# Altium integrated library Altera APEX 20KC.IntLib: 42 symbols (part 3 of 13)
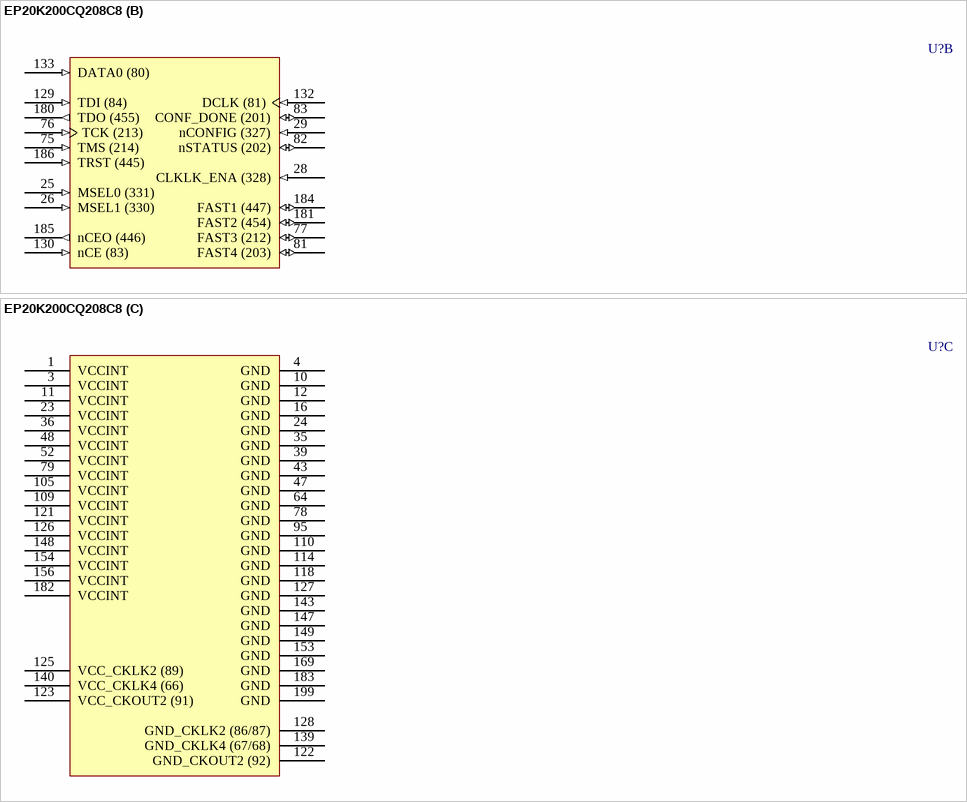
[diagram p93: symbol EP20K200CQ208C8]

## EP20K200CQ208C8
designator U?
APEX 20KC Family, 1.8V FPGA, 136 I/O Pins, 2 x PLLs, Commercial Grade, Speed Grade 8; Note: Pin compatible with Apex 20KE equivalent; Published: 23-Sep-2002; LatestRevisionDate: 13-Apr-2006; LatestRevisionNote: IPC-7351 Footprint Added.; DatasheetVersion: ver2.2, Feb-2004; PackageVersion: ver15.4, Dec-2008; PackageReference: PQFP208; Publisher: Altium Limited; PackageDescription: 208-Pin Plastic Quad Flat Pack (PQFP208) - Wire Bond; Code_JEDEC: MS-029-FA-1; ComponentLink1Description: Manufacturer Link; ComponentLink1URL: http://www.altera.com/products/devices/apex/apx-index.html; ComponentLink2Description: Datasheet; ComponentLink2URL: http://www.altera.com/literature/ds/ds_apex20kc.pdf
footprint PQFP208_N (Shrink QFP, 208-Leads, Body 28x28mm, Pitch 0.5mm, IPC Medium Density)
footprint PQFP208_L (Shrink QFP, 208-Leads, Body 28x28mm, Pitch 0.5mm, IPC High Density)
footprint PQFP208_M (Shrink QFP, 208-Leads, Body 28x28mm, Pitch 0.5mm, IPC Low Density)
3D model EP20K200C-PQFP208 (208-Pin Plastic Quad Flat Pack (PQFP208) - Wire Bond)
part A pins: 2 IO (407) (io), 5 IO (401) (io), 6 IO (395) (io), 7 IO (377) (io), 8 VCCIO3 (power), 9 IO (371) (io), 13 IO (365) (io), 14 IO (359) (io), 15 IO (357) (io), 17 IO (353) (io), 18 IO (351) (io), 19 IO (347) (io), 20 IO (345) (io), 21 IO (341) (io), 22 IO (333) (io), 27 CLK1p (329) (in), 30 IO/CLK1n (325) (io), 31 CLK3p (324) (in), 32 IO (322) (io), 33 IO (319) (io), 34 IO (318) (io), 37 IO (311) (io), 38 IO (305) (io), 40 IO (301) (io), 41 IO (299) (io), 42 VCCIO4 (power), 44 IO (281) (io), 45 IO (275) (io), 46 IO (269) (io), 49 IO (263) (io), 50 IO (257) (io), 51 IO (251) (io), 53 VCCIO5 (power), 54 IO (247) (io), 55 IO (245) (io), 56 IO (244) (io), 57 IO (242) (io), 58 IO (240) (io), 59 IO (238) (io), 60 IO (235) (io), 61 IO (234) (io), 62 IO (232) (io), 63 IO (231) (io), 65 IO (229) (io), 66 IO (227) (io), 67 IO (226) (io), 68 IO (224) (io), 69 IO (223) (io), 70 IO (222) (io), 71 IO (220) (io), 72 IO (218) (io), 73 IO (216) (io), 74 IO (215) (io), 80 VCCIO5 (power), 84 IO (198) (io), 85 IO (197) (io), 86 VCCIO6 (power), 87 IO (195) (io), 88 IO (194) (io), 89 IO (193) (io), 90 IO (191) (io), 91 IO (190) (io), 92 IO (187) (io), 93 IO (185) (io), 94 IO (183) (io), 96 IO (181) (io), 97 IO (180) (io), 98 IO (179) (io), 99 IO (176) (io), 100 IO (175) (io), 101 IO (173) (io), 102 IO (171) (io), 103 IO (170) (io), 104 IO (168) (io), 106 IO (164) (io), 107 IO (158) (io), 108 IO (152) (io), 111 IO (146) (io), 112 IO (140) (io), 113 IO (134) (io), 115 VCCIO7 (power), 116 IO/LOCK4 (110) (io), 117 IO (108) (io), 119 IO/LOCK2 (98) (io), 120 CLKLK_OUT2p (93) (out), 124 IO/DEV_OE (90) (io), 131 CLK2p (82) (in), 134 CLK4p (77) (in), 135 CLKLK_FB2p (75) (in), 136 VCCIO8 (power), 137 IO/DEV_CLRn (71) (io), 138 IO/CS (69) (io), 141 IO/nCS (56) (io), 142 IO/nRS (50) (io), 144 IO (44) (io), 145 IO/nWS (38) (io), 146 IO/DATA7 (32) (io), 150 IO/DATA6 (26) (io), 151 IO (14) (io), 152 IO (8) (io), 155 IO (2) (io), 157 IO/DATA5 (489) (io), 158 IO (487) (io), 159 IO (486) (io), 160 IO/DATA4 (485) (io), 161 IO (483) (io), 162 IO (482) (io), 163 IO/DATA3 (481) (io), 164 IO (476) (io), 165 IO (475) (io), 166 IO (474) (io), 167 IO (473) (io), 168 IO/DATA2 (472) (io), 170 IO (471) (io), 171 IO (469) (io), 172 VCCIO1 (power), 173 IO/DATA1 (465) (io), 174 IO (464) (io), 175 IO (463) (io), 176 IO/CLKUSR (461) (io), 177 IO/RDYnBSY (459) (io), 178 IO/INIT_DONE (458) (io), 179 IO (457) (io), 187 IO (444) (io), 188 IO (442) (io), 189 VCCIO2 (power), 190 IO (439) (io), 191 IO (437) (io), 192 IO (435) (io), 193 IO (434) (io), 194 IO (432) (io), 195 IO (430) (io), 196 IO (429) (io), 197 IO (427) (io), 198 IO (424) (io), 200 IO (423) (io), 201 IO (422) (io), 202 IO (420) (io), 203 IO (419) (io), 204 IO (417) (io), 205 IO (415) (io), 206 IO (413) (io), 207 IO (411) (io), 208 VCCIO2 (power)
part B pins: 25 MSEL0 (331) (in), 26 MSEL1 (330) (in), 28 CLKLK_ENA (328) (in), 29 nCONFIG (327) (in), 75 TMS (214) (in), 76 TCK (213) (in), 77 FAST3 (212) (io), 81 FAST4 (203) (io), 82 nSTATUS (202) (io), 83 CONF_DONE (201) (io), 129 TDI (84) (in), 130 nCE (83) (in), 132 DCLK (81) (in), 133 DATA0 (80) (in), 180 TDO (455) (out), 181 FAST2 (454) (io), 184 FAST1 (447) (io), 185 nCEO (446) (out), 186 TRST (445) (in)
part C pins: 1 VCCINT (power), 3 VCCINT (power), 4 GND (power), 10 GND (power), 11 VCCINT (power), 12 GND (power), 16 GND (power), 23 VCCINT (power), 24 GND (power), 35 GND (power), 36 VCCINT (power), 39 GND (power), 43 GND (power), 47 GND (power), 48 VCCINT (power), 52 VCCINT (power), 64 GND (power), 78 GND (power), 79 VCCINT (power), 95 GND (power), 105 VCCINT (power), 109 VCCINT (power), 110 GND (power), 114 GND (power), 118 GND (power), 121 VCCINT (power), 122 GND_CKOUT2 (92) (power), 123 VCC_CKOUT2 (91) (power), 125 VCC_CKLK2 (89) (power), 126 VCCINT (power), 127 GND (power), 128 GND_CKLK2 (86/87) (power), 139 GND_CKLK4 (67/68) (power), 140 VCC_CKLK4 (66) (power), 143 GND (power), 147 GND (power), 148 VCCINT (power), 149 GND (power), 153 GND (power), 154 VCCINT (power), 156 VCCINT (power), 169 GND (power), 182 VCCINT (power), 183 GND (power), 199 GND (power)
part A text: BANK 1; BANK 2; BANK 3; BANK 8; BANK 4; BANK 7; BANK 6; BANK 5

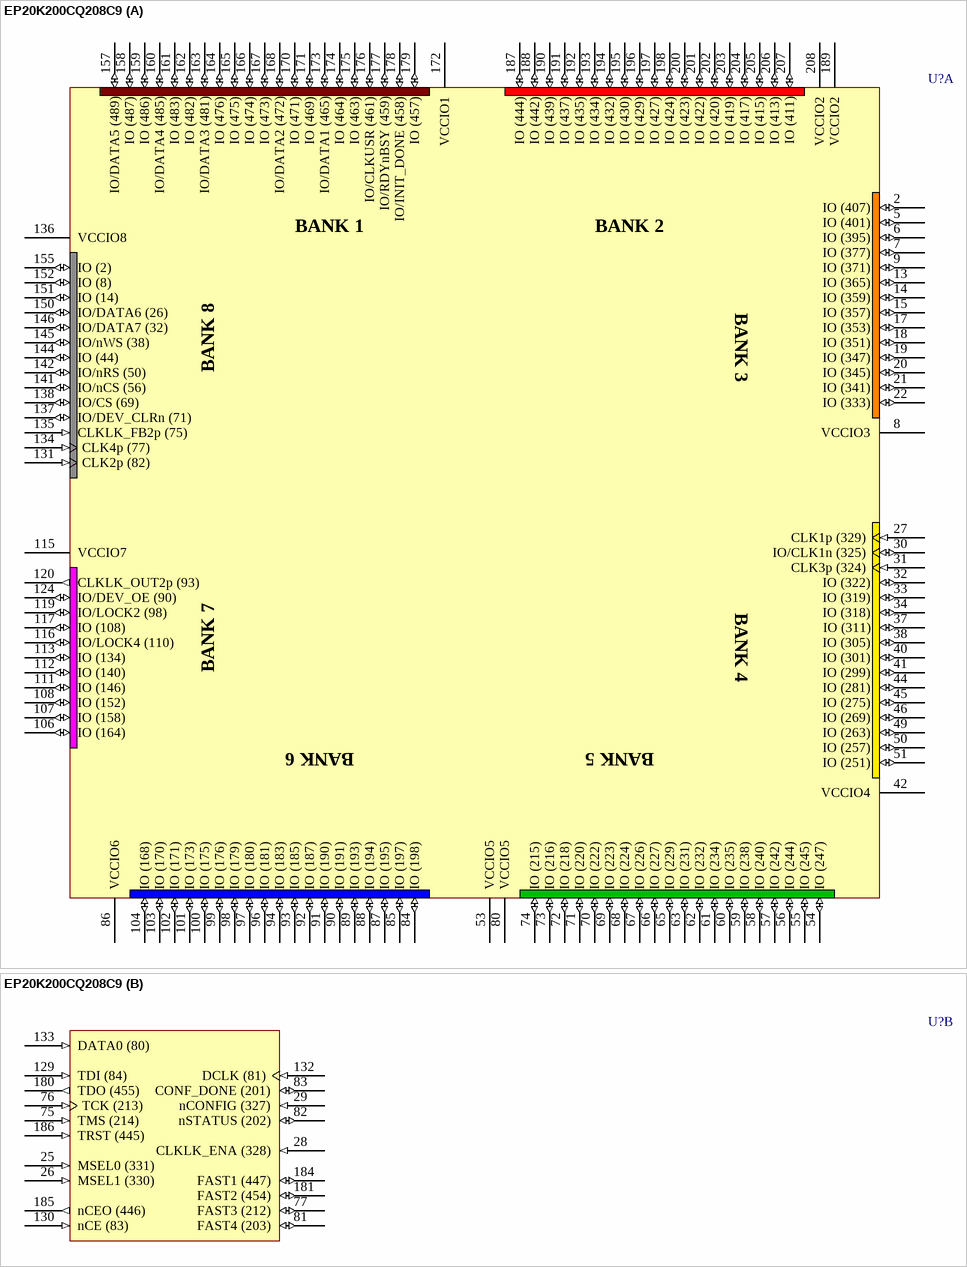
[diagram p18: symbol EP20K200CQ208C9]

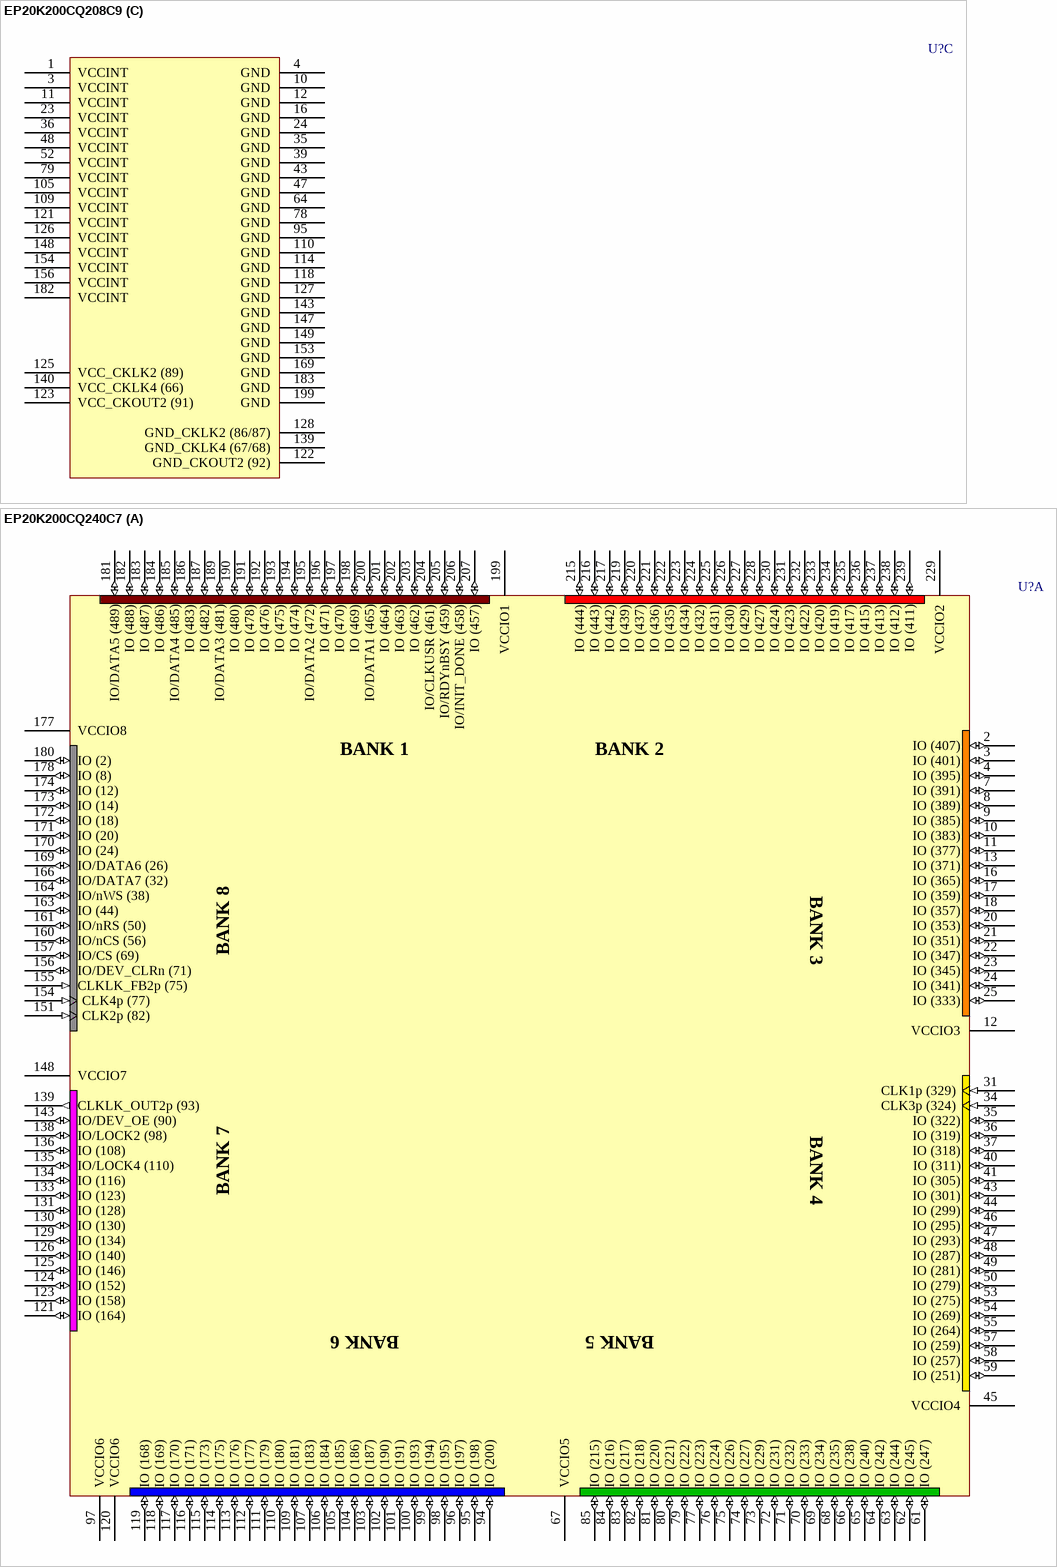
[diagram p19: symbols EP20K200CQ208C9 to EP20K200CQ240C7]

## EP20K200CQ208C9
designator U?
APEX 20KC Family, 1.8V FPGA, 136 I/O Pins, 2 x PLLs, Commercial Grade, Speed Grade 9; Note: Pin compatible with Apex 20KE equivalent; Published: 23-Sep-2002; LatestRevisionDate: 13-Apr-2006; LatestRevisionNote: IPC-7351 Footprint Added.; DatasheetVersion: ver2.2, Feb-2004; PackageVersion: ver15.4, Dec-2008; PackageReference: PQFP208; Publisher: Altium Limited; PackageDescription: 208-Pin Plastic Quad Flat Pack (PQFP208) - Wire Bond; Code_JEDEC: MS-029-FA-1; ComponentLink1Description: Manufacturer Link; ComponentLink1URL: http://www.altera.com/products/devices/apex/apx-index.html; ComponentLink2Description: Datasheet; ComponentLink2URL: http://www.altera.com/literature/ds/ds_apex20kc.pdf
footprint PQFP208_N (Shrink QFP, 208-Leads, Body 28x28mm, Pitch 0.5mm, IPC Medium Density)
footprint PQFP208_L (Shrink QFP, 208-Leads, Body 28x28mm, Pitch 0.5mm, IPC High Density)
footprint PQFP208_M (Shrink QFP, 208-Leads, Body 28x28mm, Pitch 0.5mm, IPC Low Density)
3D model EP20K200C-PQFP208 (208-Pin Plastic Quad Flat Pack (PQFP208) - Wire Bond)
part A pins: 2 IO (407) (io), 5 IO (401) (io), 6 IO (395) (io), 7 IO (377) (io), 8 VCCIO3 (power), 9 IO (371) (io), 13 IO (365) (io), 14 IO (359) (io), 15 IO (357) (io), 17 IO (353) (io), 18 IO (351) (io), 19 IO (347) (io), 20 IO (345) (io), 21 IO (341) (io), 22 IO (333) (io), 27 CLK1p (329) (in), 30 IO/CLK1n (325) (io), 31 CLK3p (324) (in), 32 IO (322) (io), 33 IO (319) (io), 34 IO (318) (io), 37 IO (311) (io), 38 IO (305) (io), 40 IO (301) (io), 41 IO (299) (io), 42 VCCIO4 (power), 44 IO (281) (io), 45 IO (275) (io), 46 IO (269) (io), 49 IO (263) (io), 50 IO (257) (io), 51 IO (251) (io), 53 VCCIO5 (power), 54 IO (247) (io), 55 IO (245) (io), 56 IO (244) (io), 57 IO (242) (io), 58 IO (240) (io), 59 IO (238) (io), 60 IO (235) (io), 61 IO (234) (io), 62 IO (232) (io), 63 IO (231) (io), 65 IO (229) (io), 66 IO (227) (io), 67 IO (226) (io), 68 IO (224) (io), 69 IO (223) (io), 70 IO (222) (io), 71 IO (220) (io), 72 IO (218) (io), 73 IO (216) (io), 74 IO (215) (io), 80 VCCIO5 (power), 84 IO (198) (io), 85 IO (197) (io), 86 VCCIO6 (power), 87 IO (195) (io), 88 IO (194) (io), 89 IO (193) (io), 90 IO (191) (io), 91 IO (190) (io), 92 IO (187) (io), 93 IO (185) (io), 94 IO (183) (io), 96 IO (181) (io), 97 IO (180) (io), 98 IO (179) (io), 99 IO (176) (io), 100 IO (175) (io), 101 IO (173) (io), 102 IO (171) (io), 103 IO (170) (io), 104 IO (168) (io), 106 IO (164) (io), 107 IO (158) (io), 108 IO (152) (io), 111 IO (146) (io), 112 IO (140) (io), 113 IO (134) (io), 115 VCCIO7 (power), 116 IO/LOCK4 (110) (io), 117 IO (108) (io), 119 IO/LOCK2 (98) (io), 120 CLKLK_OUT2p (93) (out), 124 IO/DEV_OE (90) (io), 131 CLK2p (82) (in), 134 CLK4p (77) (in), 135 CLKLK_FB2p (75) (in), 136 VCCIO8 (power), 137 IO/DEV_CLRn (71) (io), 138 IO/CS (69) (io), 141 IO/nCS (56) (io), 142 IO/nRS (50) (io), 144 IO (44) (io), 145 IO/nWS (38) (io), 146 IO/DATA7 (32) (io), 150 IO/DATA6 (26) (io), 151 IO (14) (io), 152 IO (8) (io), 155 IO (2) (io), 157 IO/DATA5 (489) (io), 158 IO (487) (io), 159 IO (486) (io), 160 IO/DATA4 (485) (io), 161 IO (483) (io), 162 IO (482) (io), 163 IO/DATA3 (481) (io), 164 IO (476) (io), 165 IO (475) (io), 166 IO (474) (io), 167 IO (473) (io), 168 IO/DATA2 (472) (io), 170 IO (471) (io), 171 IO (469) (io), 172 VCCIO1 (power), 173 IO/DATA1 (465) (io), 174 IO (464) (io), 175 IO (463) (io), 176 IO/CLKUSR (461) (io), 177 IO/RDYnBSY (459) (io), 178 IO/INIT_DONE (458) (io), 179 IO (457) (io), 187 IO (444) (io), 188 IO (442) (io), 189 VCCIO2 (power), 190 IO (439) (io), 191 IO (437) (io), 192 IO (435) (io), 193 IO (434) (io), 194 IO (432) (io), 195 IO (430) (io), 196 IO (429) (io), 197 IO (427) (io), 198 IO (424) (io), 200 IO (423) (io), 201 IO (422) (io), 202 IO (420) (io), 203 IO (419) (io), 204 IO (417) (io), 205 IO (415) (io), 206 IO (413) (io), 207 IO (411) (io), 208 VCCIO2 (power)
part B pins: 25 MSEL0 (331) (in), 26 MSEL1 (330) (in), 28 CLKLK_ENA (328) (in), 29 nCONFIG (327) (in), 75 TMS (214) (in), 76 TCK (213) (in), 77 FAST3 (212) (io), 81 FAST4 (203) (io), 82 nSTATUS (202) (io), 83 CONF_DONE (201) (io), 129 TDI (84) (in), 130 nCE (83) (in), 132 DCLK (81) (in), 133 DATA0 (80) (in), 180 TDO (455) (out), 181 FAST2 (454) (io), 184 FAST1 (447) (io), 185 nCEO (446) (out), 186 TRST (445) (in)
part C pins: 1 VCCINT (power), 3 VCCINT (power), 4 GND (power), 10 GND (power), 11 VCCINT (power), 12 GND (power), 16 GND (power), 23 VCCINT (power), 24 GND (power), 35 GND (power), 36 VCCINT (power), 39 GND (power), 43 GND (power), 47 GND (power), 48 VCCINT (power), 52 VCCINT (power), 64 GND (power), 78 GND (power), 79 VCCINT (power), 95 GND (power), 105 VCCINT (power), 109 VCCINT (power), 110 GND (power), 114 GND (power), 118 GND (power), 121 VCCINT (power), 122 GND_CKOUT2 (92) (power), 123 VCC_CKOUT2 (91) (power), 125 VCC_CKLK2 (89) (power), 126 VCCINT (power), 127 GND (power), 128 GND_CKLK2 (86/87) (power), 139 GND_CKLK4 (67/68) (power), 140 VCC_CKLK4 (66) (power), 143 GND (power), 147 GND (power), 148 VCCINT (power), 149 GND (power), 153 GND (power), 154 VCCINT (power), 156 VCCINT (power), 169 GND (power), 182 VCCINT (power), 183 GND (power), 199 GND (power)
part A text: BANK 1; BANK 2; BANK 3; BANK 8; BANK 4; BANK 7; BANK 6; BANK 5

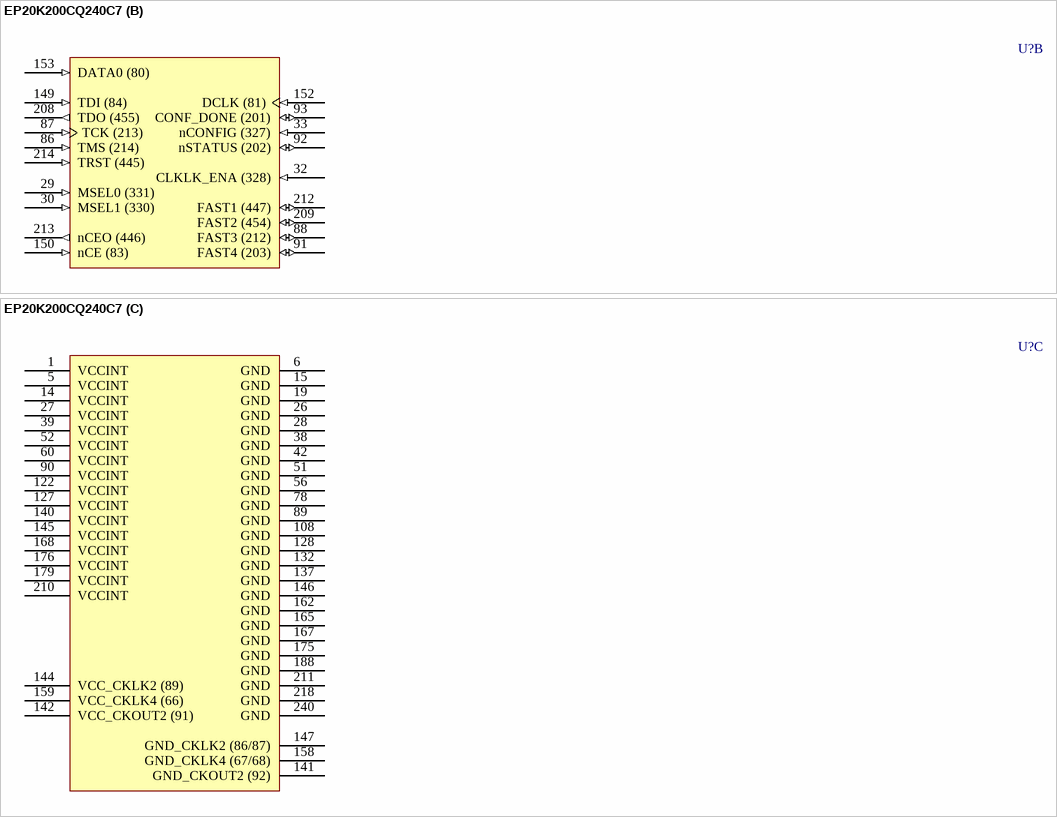
[diagram p20: symbol EP20K200CQ240C7]

## EP20K200CQ240C7
designator U?
APEX 20KC Family, 1.8V FPGA, 168 I/O Pins, 2 x PLLs, Commercial Grade, Speed Grade 7; Note: Pin compatible with Apex 20KE equivalent; Published: 23-Sep-2002; LatestRevisionDate: 13-Apr-2006; LatestRevisionNote: IPC-7351 Footprint Added.; DatasheetVersion: ver2.2, Feb-2004; PackageVersion: ver15.4, Dec-2008; PackageReference: PQFP240; Publisher: Altium Limited; PackageDescription: 240-Pin Plastic Quad Flat Pack (PQFP240) - Wire Bond; Code_JEDEC: MS-029-GA; ComponentLink1Description: Manufacturer Link; ComponentLink1URL: http://www.altera.com/products/devices/apex/apx-index.html; ComponentLink2Description: Datasheet; ComponentLink2URL: http://www.altera.com/literature/ds/ds_apex20kc.pdf
footprint PQFP240_N (Shrink QFP, 240-Leads, Body 32x32mm, Pitch 0.5mm, IPC Medium Density)
footprint PQFP240_L (Shrink QFP, 240-Leads, Body 32x32mm, Pitch 0.5mm, IPC High Density)
footprint PQFP240_M (Shrink QFP, 240-Leads, Body 32x32mm, Pitch 0.5mm, IPC Low Density)
3D model EP20K200C-PQFP240 (240-Pin Plastic Quad Flat Pack (PQFP240) - Wire Bond)
part A pins: 2 IO (407) (io), 3 IO (401) (io), 4 IO (395) (io), 7 IO (391) (io), 8 IO (389) (io), 9 IO (385) (io), 10 IO (383) (io), 11 IO (377) (io), 12 VCCIO3 (power), 13 IO (371) (io), 16 IO (365) (io), 17 IO (359) (io), 18 IO (357) (io), 20 IO (353) (io), 21 IO (351) (io), 22 IO (347) (io), 23 IO (345) (io), 24 IO (341) (io), 25 IO (333) (io), 31 CLK1p (329) (in), 34 CLK3p (324) (in), 35 IO (322) (io), 36 IO (319) (io), 37 IO (318) (io), 40 IO (311) (io), 41 IO (305) (io), 43 IO (301) (io), 44 IO (299) (io), 45 VCCIO4 (power), 46 IO (295) (io), 47 IO (293) (io), 48 IO (287) (io), 49 IO (281) (io), 50 IO (279) (io), 53 IO (275) (io), 54 IO (269) (io), 55 IO (264) (io), 57 IO (259) (io), 58 IO (257) (io), 59 IO (251) (io), 61 IO (247) (io), 62 IO (245) (io), 63 IO (244) (io), 64 IO (242) (io), 65 IO (240) (io), 66 IO (238) (io), 67 VCCIO5 (power), 68 IO (235) (io), 69 IO (234) (io), 70 IO (233) (io), 71 IO (232) (io), 72 IO (231) (io), 73 IO (229) (io), 74 IO (227) (io), 75 IO (226) (io), 76 IO (224) (io), 77 IO (223) (io), 79 IO (222) (io), 80 IO (221) (io), 81 IO (220) (io), 82 IO (218) (io), 83 IO (217) (io), 84 IO (216) (io), 85 IO (215) (io), 94 IO (200) (io), 95 IO (198) (io), 96 IO (197) (io), 97 VCCIO6 (power), 98 IO (195) (io), 99 IO (194) (io), 100 IO (193) (io), 101 IO (191) (io), 102 IO (190) (io), 103 IO (187) (io), 104 IO (186) (io), 105 IO (185) (io), 106 IO (184) (io), 107 IO (183) (io), 109 IO (181) (io), 110 IO (180) (io), 111 IO (179) (io), 112 IO (177) (io), 113 IO (176) (io), 114 IO (175) (io), 115 IO (173) (io), 116 IO (171) (io), 117 IO (170) (io), 118 IO (169) (io), 119 IO (168) (io), 120 VCCIO6 (power), 121 IO (164) (io), 123 IO (158) (io), 124 IO (152) (io), 125 IO (146) (io), 126 IO (140) (io), 129 IO (134) (io), 130 IO (130) (io), 131 IO (128) (io), 133 IO (123) (io), 134 IO (116) (io), 135 IO/LOCK4 (110) (io), 136 IO (108) (io), 138 IO/LOCK2 (98) (io), 139 CLKLK_OUT2p (93) (out), 143 IO/DEV_OE (90) (io), 148 VCCIO7 (power), 151 CLK2p (82) (in), 154 CLK4p (77) (in), 155 CLKLK_FB2p (75) (in), 156 IO/DEV_CLRn (71) (io), 157 IO/CS (69) (io), 160 IO/nCS (56) (io), 161 IO/nRS (50) (io), 163 IO (44) (io), 164 IO/nWS (38) (io), 166 IO/DATA7 (32) (io), 169 IO/DATA6 (26) (io), 170 IO (24) (io), 171 IO (20) (io), 172 IO (18) (io), 173 IO (14) (io), 174 IO (12) (io), 177 VCCIO8 (power), 178 IO (8) (io), 180 IO (2) (io), 181 IO/DATA5 (489) (io), 182 IO (488) (io), 183 IO (487) (io), 184 IO (486) (io), 185 IO/DATA4 (485) (io), 186 IO (483) (io), 187 IO (482) (io), 189 IO/DATA3 (481) (io), 190 IO (480) (io), 191 IO (478) (io), 192 IO (476) (io), 193 IO (475) (io), 194 IO (474) (io), 195 IO/DATA2 (472) (io), 196 IO (471) (io), 197 IO (470) (io), 198 IO (469) (io), 199 VCCIO1 (power), 200 IO/DATA1 (465) (io), 201 IO (464) (io), 202 IO (463) (io), 203 IO (462) (io), 204 IO/CLKUSR (461) (io), 205 IO/RDYnBSY (459) (io), 206 IO/INIT_DONE (458) (io), 207 IO (457) (io), 215 IO (444) (io), 216 IO (443) (io), 217 IO (442) (io), 219 IO (439) (io), 220 IO (437) (io), 221 IO (436) (io), 222 IO (435) (io), 223 IO (434) (io), 224 IO (432) (io), 225 IO (431) (io), 226 IO (430) (io), 227 IO (429) (io), 228 IO (427) (io), 229 VCCIO2 (power), 230 IO (424) (io), 231 IO (423) (io), 232 IO (422) (io), 233 IO (420) (io), 234 IO (419) (io), 235 IO (417) (io), 236 IO (415) (io), 237 IO (413) (io), 238 IO (412) (io), 239 IO (411) (io)
part B pins: 29 MSEL0 (331) (in), 30 MSEL1 (330) (in), 32 CLKLK_ENA (328) (in), 33 nCONFIG (327) (in), 86 TMS (214) (in), 87 TCK (213) (in), 88 FAST3 (212) (io), 91 FAST4 (203) (io), 92 nSTATUS (202) (io), 93 CONF_DONE (201) (io), 149 TDI (84) (in), 150 nCE (83) (in), 152 DCLK (81) (in), 153 DATA0 (80) (in), 208 TDO (455) (out), 209 FAST2 (454) (io), 212 FAST1 (447) (io), 213 nCEO (446) (out), 214 TRST (445) (in)
part C pins: 1 VCCINT (power), 5 VCCINT (power), 6 GND (power), 14 VCCINT (power), 15 GND (power), 19 GND (power), 26 GND (power), 27 VCCINT (power), 28 GND (power), 38 GND (power), 39 VCCINT (power), 42 GND (power), 51 GND (power), 52 VCCINT (power), 56 GND (power), 60 VCCINT (power), 78 GND (power), 89 GND (power), 90 VCCINT (power), 108 GND (power), 122 VCCINT (power), 127 VCCINT (power), 128 GND (power), 132 GND (power), 137 GND (power), 140 VCCINT (power), 141 GND_CKOUT2 (92) (power), 142 VCC_CKOUT2 (91) (power), 144 VCC_CKLK2 (89) (power), 145 VCCINT (power), 146 GND (power), 147 GND_CKLK2 (86/87) (power), 158 GND_CKLK4 (67/68) (power), 159 VCC_CKLK4 (66) (power), 162 GND (power), 165 GND (power), 167 GND (power), 168 VCCINT (power), 175 GND (power), 176 VCCINT (power), 179 VCCINT (power), 188 GND (power), 210 VCCINT (power), 211 GND (power), 218 GND (power), 240 GND (power)
part A text: BANK 1; BANK 2; BANK 3; BANK 8; BANK 4; BANK 7; BANK 6; BANK 5

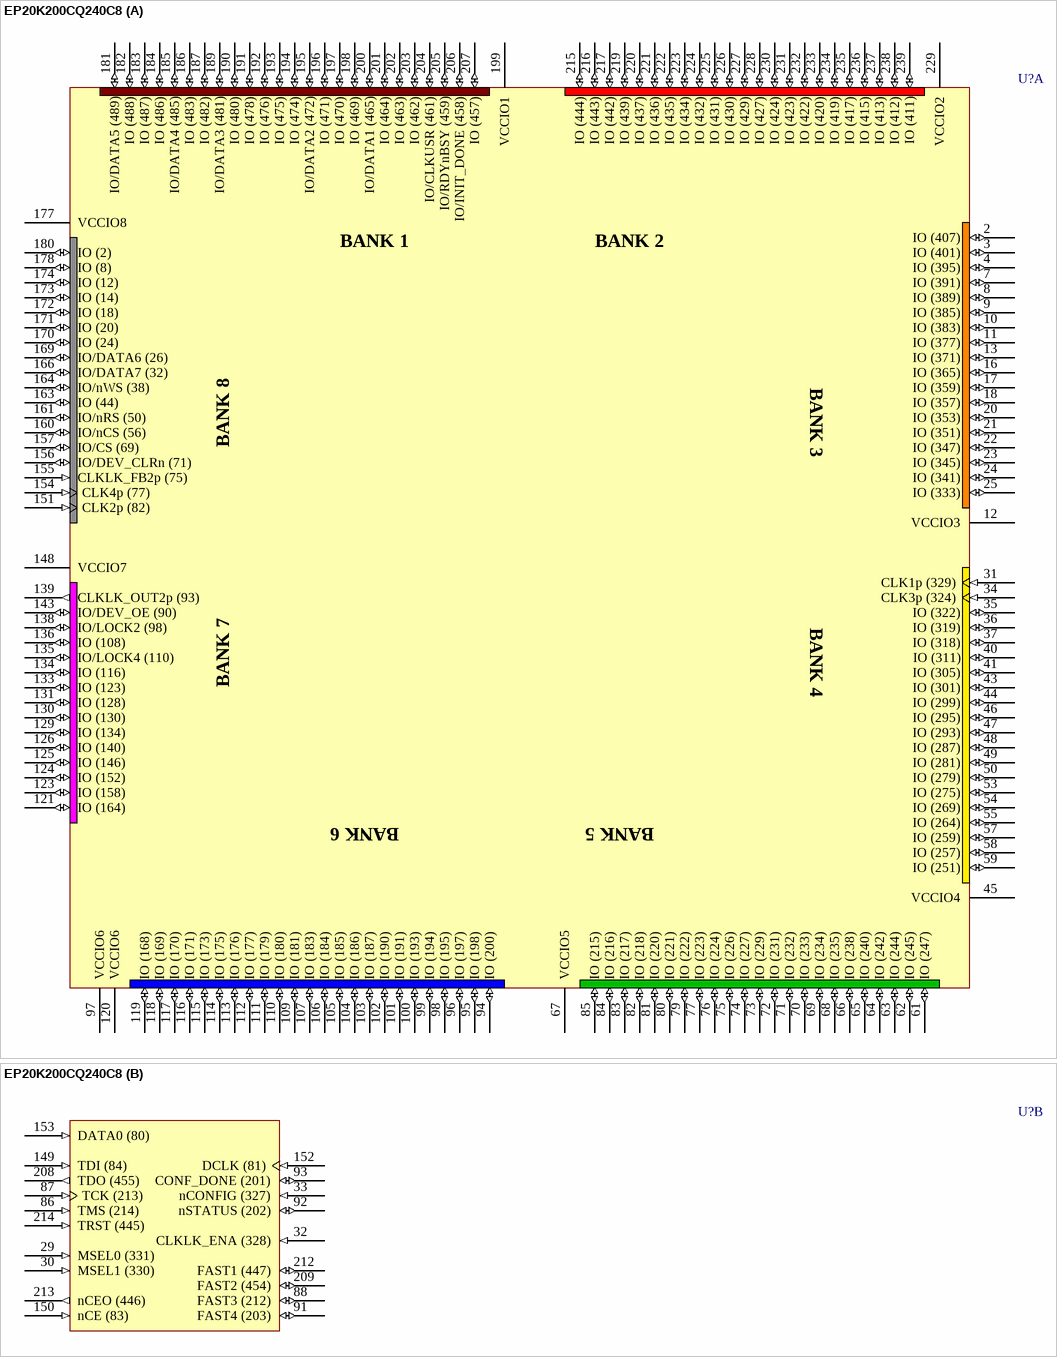
[diagram p21: symbol EP20K200CQ240C8]

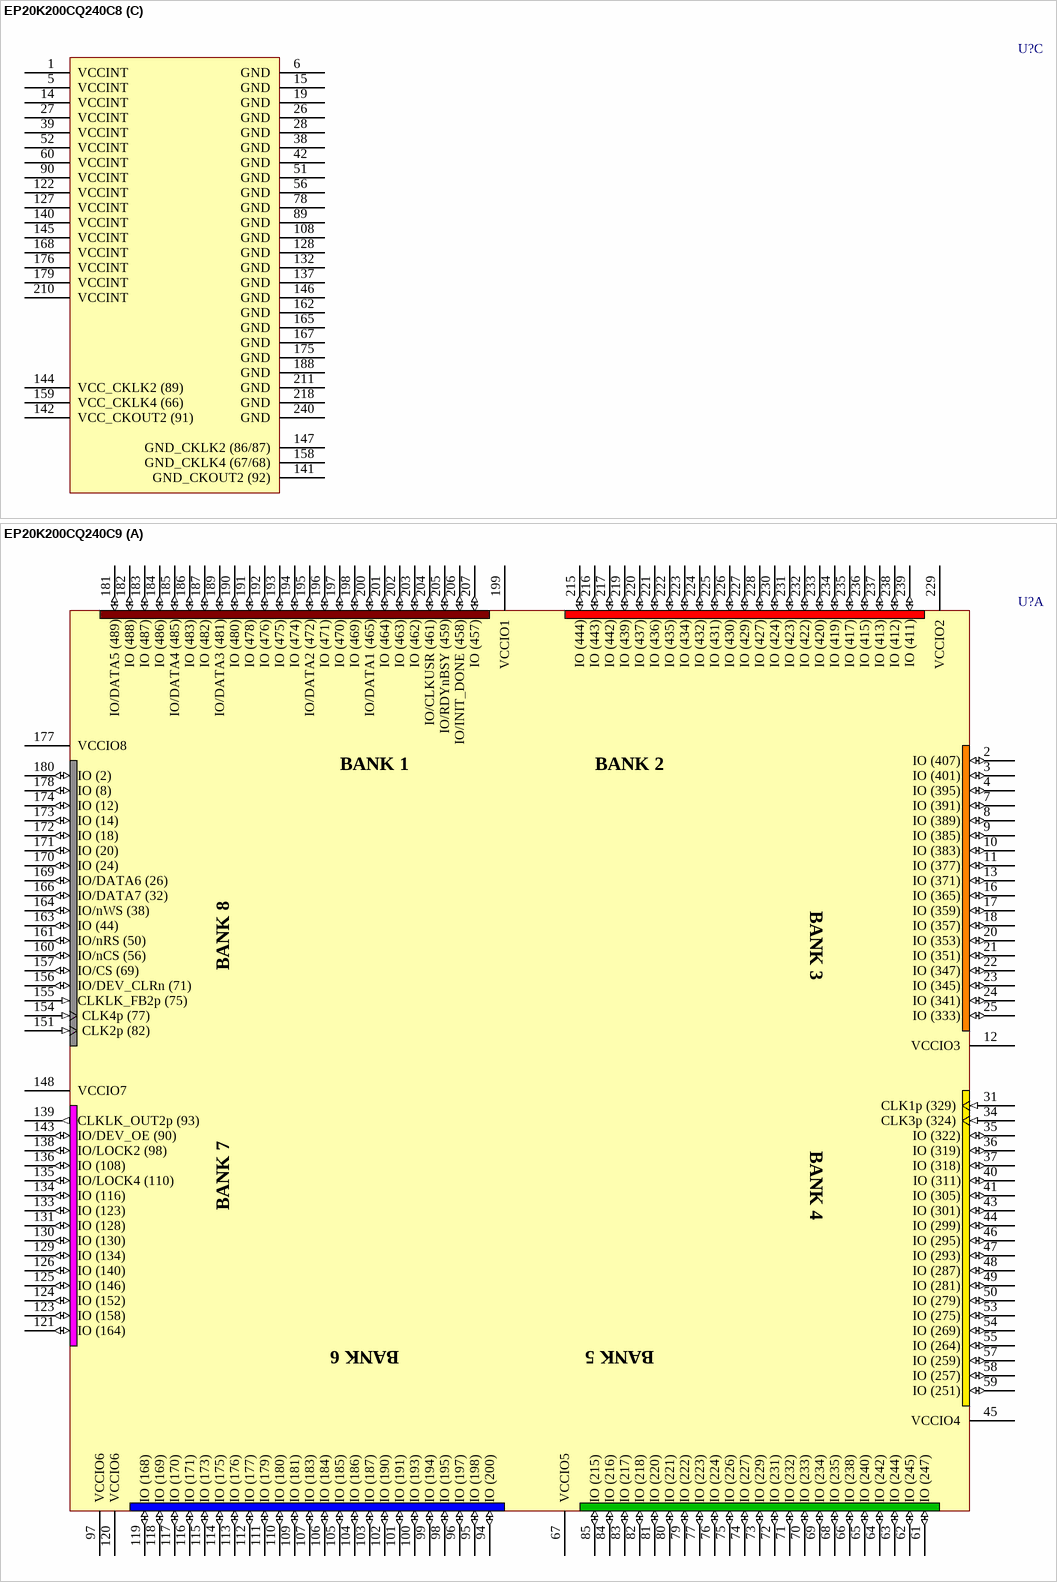
[diagram p22: symbols EP20K200CQ240C8 to EP20K200CQ240C9]

## EP20K200CQ240C8
designator U?
APEX 20KC Family, 1.8V FPGA, 168 I/O Pins, 2 x PLLs, Commercial Grade, Speed Grade 8; Note: Pin compatible with Apex 20KE equivalent; Published: 23-Sep-2002; LatestRevisionDate: 13-Apr-2006; LatestRevisionNote: IPC-7351 Footprint Added.; DatasheetVersion: ver2.2, Feb-2004; PackageVersion: ver15.4, Dec-2008; PackageReference: PQFP240; Publisher: Altium Limited; PackageDescription: 240-Pin Plastic Quad Flat Pack (PQFP240) - Wire Bond; Code_JEDEC: MS-029-GA; ComponentLink1Description: Manufacturer Link; ComponentLink1URL: http://www.altera.com/products/devices/apex/apx-index.html; ComponentLink2Description: Datasheet; ComponentLink2URL: http://www.altera.com/literature/ds/ds_apex20kc.pdf
footprint PQFP240_N (Shrink QFP, 240-Leads, Body 32x32mm, Pitch 0.5mm, IPC Medium Density)
footprint PQFP240_L (Shrink QFP, 240-Leads, Body 32x32mm, Pitch 0.5mm, IPC High Density)
footprint PQFP240_M (Shrink QFP, 240-Leads, Body 32x32mm, Pitch 0.5mm, IPC Low Density)
3D model EP20K200C-PQFP240 (240-Pin Plastic Quad Flat Pack (PQFP240) - Wire Bond)
part A pins: 2 IO (407) (io), 3 IO (401) (io), 4 IO (395) (io), 7 IO (391) (io), 8 IO (389) (io), 9 IO (385) (io), 10 IO (383) (io), 11 IO (377) (io), 12 VCCIO3 (power), 13 IO (371) (io), 16 IO (365) (io), 17 IO (359) (io), 18 IO (357) (io), 20 IO (353) (io), 21 IO (351) (io), 22 IO (347) (io), 23 IO (345) (io), 24 IO (341) (io), 25 IO (333) (io), 31 CLK1p (329) (in), 34 CLK3p (324) (in), 35 IO (322) (io), 36 IO (319) (io), 37 IO (318) (io), 40 IO (311) (io), 41 IO (305) (io), 43 IO (301) (io), 44 IO (299) (io), 45 VCCIO4 (power), 46 IO (295) (io), 47 IO (293) (io), 48 IO (287) (io), 49 IO (281) (io), 50 IO (279) (io), 53 IO (275) (io), 54 IO (269) (io), 55 IO (264) (io), 57 IO (259) (io), 58 IO (257) (io), 59 IO (251) (io), 61 IO (247) (io), 62 IO (245) (io), 63 IO (244) (io), 64 IO (242) (io), 65 IO (240) (io), 66 IO (238) (io), 67 VCCIO5 (power), 68 IO (235) (io), 69 IO (234) (io), 70 IO (233) (io), 71 IO (232) (io), 72 IO (231) (io), 73 IO (229) (io), 74 IO (227) (io), 75 IO (226) (io), 76 IO (224) (io), 77 IO (223) (io), 79 IO (222) (io), 80 IO (221) (io), 81 IO (220) (io), 82 IO (218) (io), 83 IO (217) (io), 84 IO (216) (io), 85 IO (215) (io), 94 IO (200) (io), 95 IO (198) (io), 96 IO (197) (io), 97 VCCIO6 (power), 98 IO (195) (io), 99 IO (194) (io), 100 IO (193) (io), 101 IO (191) (io), 102 IO (190) (io), 103 IO (187) (io), 104 IO (186) (io), 105 IO (185) (io), 106 IO (184) (io), 107 IO (183) (io), 109 IO (181) (io), 110 IO (180) (io), 111 IO (179) (io), 112 IO (177) (io), 113 IO (176) (io), 114 IO (175) (io), 115 IO (173) (io), 116 IO (171) (io), 117 IO (170) (io), 118 IO (169) (io), 119 IO (168) (io), 120 VCCIO6 (power), 121 IO (164) (io), 123 IO (158) (io), 124 IO (152) (io), 125 IO (146) (io), 126 IO (140) (io), 129 IO (134) (io), 130 IO (130) (io), 131 IO (128) (io), 133 IO (123) (io), 134 IO (116) (io), 135 IO/LOCK4 (110) (io), 136 IO (108) (io), 138 IO/LOCK2 (98) (io), 139 CLKLK_OUT2p (93) (out), 143 IO/DEV_OE (90) (io), 148 VCCIO7 (power), 151 CLK2p (82) (in), 154 CLK4p (77) (in), 155 CLKLK_FB2p (75) (in), 156 IO/DEV_CLRn (71) (io), 157 IO/CS (69) (io), 160 IO/nCS (56) (io), 161 IO/nRS (50) (io), 163 IO (44) (io), 164 IO/nWS (38) (io), 166 IO/DATA7 (32) (io), 169 IO/DATA6 (26) (io), 170 IO (24) (io), 171 IO (20) (io), 172 IO (18) (io), 173 IO (14) (io), 174 IO (12) (io), 177 VCCIO8 (power), 178 IO (8) (io), 180 IO (2) (io), 181 IO/DATA5 (489) (io), 182 IO (488) (io), 183 IO (487) (io), 184 IO (486) (io), 185 IO/DATA4 (485) (io), 186 IO (483) (io), 187 IO (482) (io), 189 IO/DATA3 (481) (io), 190 IO (480) (io), 191 IO (478) (io), 192 IO (476) (io), 193 IO (475) (io), 194 IO (474) (io), 195 IO/DATA2 (472) (io), 196 IO (471) (io), 197 IO (470) (io), 198 IO (469) (io), 199 VCCIO1 (power), 200 IO/DATA1 (465) (io), 201 IO (464) (io), 202 IO (463) (io), 203 IO (462) (io), 204 IO/CLKUSR (461) (io), 205 IO/RDYnBSY (459) (io), 206 IO/INIT_DONE (458) (io), 207 IO (457) (io), 215 IO (444) (io), 216 IO (443) (io), 217 IO (442) (io), 219 IO (439) (io), 220 IO (437) (io), 221 IO (436) (io), 222 IO (435) (io), 223 IO (434) (io), 224 IO (432) (io), 225 IO (431) (io), 226 IO (430) (io), 227 IO (429) (io), 228 IO (427) (io), 229 VCCIO2 (power), 230 IO (424) (io), 231 IO (423) (io), 232 IO (422) (io), 233 IO (420) (io), 234 IO (419) (io), 235 IO (417) (io), 236 IO (415) (io), 237 IO (413) (io), 238 IO (412) (io), 239 IO (411) (io)
part B pins: 29 MSEL0 (331) (in), 30 MSEL1 (330) (in), 32 CLKLK_ENA (328) (in), 33 nCONFIG (327) (in), 86 TMS (214) (in), 87 TCK (213) (in), 88 FAST3 (212) (io), 91 FAST4 (203) (io), 92 nSTATUS (202) (io), 93 CONF_DONE (201) (io), 149 TDI (84) (in), 150 nCE (83) (in), 152 DCLK (81) (in), 153 DATA0 (80) (in), 208 TDO (455) (out), 209 FAST2 (454) (io), 212 FAST1 (447) (io), 213 nCEO (446) (out), 214 TRST (445) (in)
part C pins: 1 VCCINT (power), 5 VCCINT (power), 6 GND (power), 14 VCCINT (power), 15 GND (power), 19 GND (power), 26 GND (power), 27 VCCINT (power), 28 GND (power), 38 GND (power), 39 VCCINT (power), 42 GND (power), 51 GND (power), 52 VCCINT (power), 56 GND (power), 60 VCCINT (power), 78 GND (power), 89 GND (power), 90 VCCINT (power), 108 GND (power), 122 VCCINT (power), 127 VCCINT (power), 128 GND (power), 132 GND (power), 137 GND (power), 140 VCCINT (power), 141 GND_CKOUT2 (92) (power), 142 VCC_CKOUT2 (91) (power), 144 VCC_CKLK2 (89) (power), 145 VCCINT (power), 146 GND (power), 147 GND_CKLK2 (86/87) (power), 158 GND_CKLK4 (67/68) (power), 159 VCC_CKLK4 (66) (power), 162 GND (power), 165 GND (power), 167 GND (power), 168 VCCINT (power), 175 GND (power), 176 VCCINT (power), 179 VCCINT (power), 188 GND (power), 210 VCCINT (power), 211 GND (power), 218 GND (power), 240 GND (power)
part A text: BANK 1; BANK 2; BANK 3; BANK 8; BANK 4; BANK 7; BANK 6; BANK 5

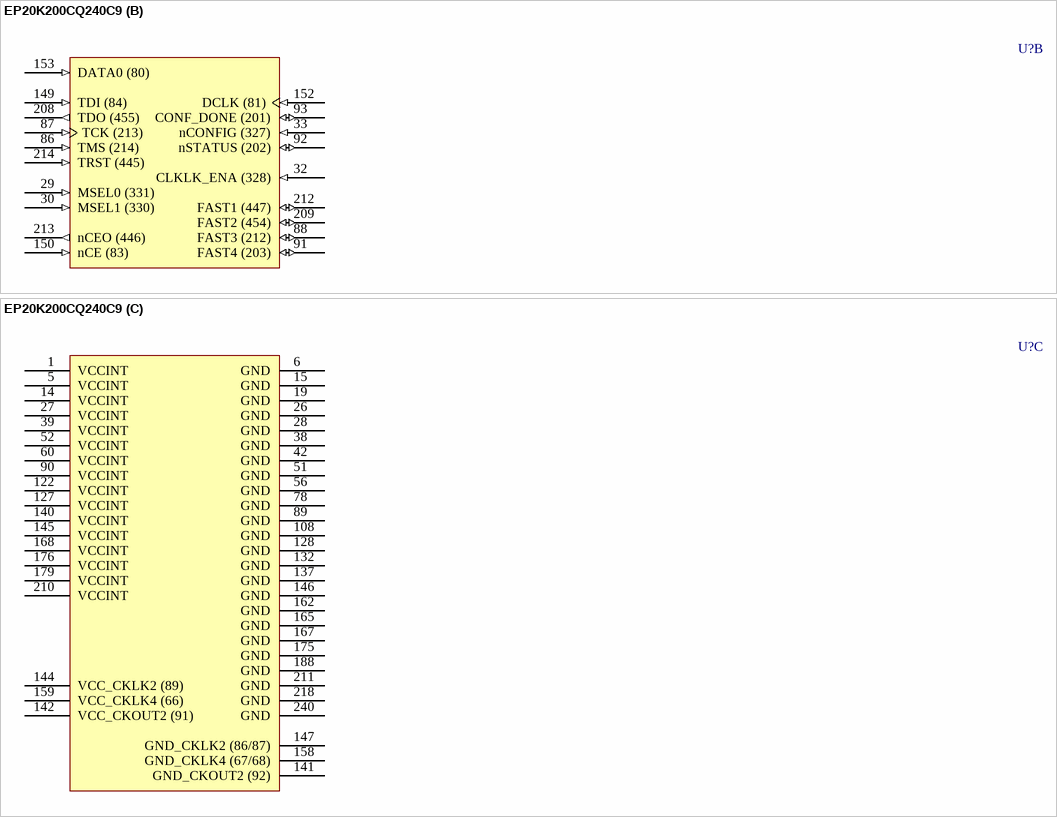
[diagram p23: symbol EP20K200CQ240C9]

## EP20K200CQ240C9
designator U?
APEX 20KC Family, 1.8V FPGA, 168 I/O Pins, 2 x PLLs, Commercial Grade, Speed Grade 9; Note: Pin compatible with Apex 20KE equivalent; Published: 23-Sep-2002; LatestRevisionDate: 13-Apr-2006; LatestRevisionNote: IPC-7351 Footprint Added.; DatasheetVersion: ver2.2, Feb-2004; PackageVersion: ver15.4, Dec-2008; PackageReference: PQFP240; Publisher: Altium Limited; PackageDescription: 240-Pin Plastic Quad Flat Pack (PQFP240) - Wire Bond; Code_JEDEC: MS-029-GA; ComponentLink1Description: Manufacturer Link; ComponentLink1URL: http://www.altera.com/products/devices/apex/apx-index.html; ComponentLink2Description: Datasheet; ComponentLink2URL: http://www.altera.com/literature/ds/ds_apex20kc.pdf
footprint PQFP240_N (Shrink QFP, 240-Leads, Body 32x32mm, Pitch 0.5mm, IPC Medium Density)
footprint PQFP240_L (Shrink QFP, 240-Leads, Body 32x32mm, Pitch 0.5mm, IPC High Density)
footprint PQFP240_M (Shrink QFP, 240-Leads, Body 32x32mm, Pitch 0.5mm, IPC Low Density)
3D model EP20K200C-PQFP240 (240-Pin Plastic Quad Flat Pack (PQFP240) - Wire Bond)
part A pins: 2 IO (407) (io), 3 IO (401) (io), 4 IO (395) (io), 7 IO (391) (io), 8 IO (389) (io), 9 IO (385) (io), 10 IO (383) (io), 11 IO (377) (io), 12 VCCIO3 (power), 13 IO (371) (io), 16 IO (365) (io), 17 IO (359) (io), 18 IO (357) (io), 20 IO (353) (io), 21 IO (351) (io), 22 IO (347) (io), 23 IO (345) (io), 24 IO (341) (io), 25 IO (333) (io), 31 CLK1p (329) (in), 34 CLK3p (324) (in), 35 IO (322) (io), 36 IO (319) (io), 37 IO (318) (io), 40 IO (311) (io), 41 IO (305) (io), 43 IO (301) (io), 44 IO (299) (io), 45 VCCIO4 (power), 46 IO (295) (io), 47 IO (293) (io), 48 IO (287) (io), 49 IO (281) (io), 50 IO (279) (io), 53 IO (275) (io), 54 IO (269) (io), 55 IO (264) (io), 57 IO (259) (io), 58 IO (257) (io), 59 IO (251) (io), 61 IO (247) (io), 62 IO (245) (io), 63 IO (244) (io), 64 IO (242) (io), 65 IO (240) (io), 66 IO (238) (io), 67 VCCIO5 (power), 68 IO (235) (io), 69 IO (234) (io), 70 IO (233) (io), 71 IO (232) (io), 72 IO (231) (io), 73 IO (229) (io), 74 IO (227) (io), 75 IO (226) (io), 76 IO (224) (io), 77 IO (223) (io), 79 IO (222) (io), 80 IO (221) (io), 81 IO (220) (io), 82 IO (218) (io), 83 IO (217) (io), 84 IO (216) (io), 85 IO (215) (io), 94 IO (200) (io), 95 IO (198) (io), 96 IO (197) (io), 97 VCCIO6 (power), 98 IO (195) (io), 99 IO (194) (io), 100 IO (193) (io), 101 IO (191) (io), 102 IO (190) (io), 103 IO (187) (io), 104 IO (186) (io), 105 IO (185) (io), 106 IO (184) (io), 107 IO (183) (io), 109 IO (181) (io), 110 IO (180) (io), 111 IO (179) (io), 112 IO (177) (io), 113 IO (176) (io), 114 IO (175) (io), 115 IO (173) (io), 116 IO (171) (io), 117 IO (170) (io), 118 IO (169) (io), 119 IO (168) (io), 120 VCCIO6 (power), 121 IO (164) (io), 123 IO (158) (io), 124 IO (152) (io), 125 IO (146) (io), 126 IO (140) (io), 129 IO (134) (io), 130 IO (130) (io), 131 IO (128) (io), 133 IO (123) (io), 134 IO (116) (io), 135 IO/LOCK4 (110) (io), 136 IO (108) (io), 138 IO/LOCK2 (98) (io), 139 CLKLK_OUT2p (93) (out), 143 IO/DEV_OE (90) (io), 148 VCCIO7 (power), 151 CLK2p (82) (in), 154 CLK4p (77) (in), 155 CLKLK_FB2p (75) (in), 156 IO/DEV_CLRn (71) (io), 157 IO/CS (69) (io), 160 IO/nCS (56) (io), 161 IO/nRS (50) (io), 163 IO (44) (io), 164 IO/nWS (38) (io), 166 IO/DATA7 (32) (io), 169 IO/DATA6 (26) (io), 170 IO (24) (io), 171 IO (20) (io), 172 IO (18) (io), 173 IO (14) (io), 174 IO (12) (io), 177 VCCIO8 (power), 178 IO (8) (io), 180 IO (2) (io), 181 IO/DATA5 (489) (io), 182 IO (488) (io), 183 IO (487) (io), 184 IO (486) (io), 185 IO/DATA4 (485) (io), 186 IO (483) (io), 187 IO (482) (io), 189 IO/DATA3 (481) (io), 190 IO (480) (io), 191 IO (478) (io), 192 IO (476) (io), 193 IO (475) (io), 194 IO (474) (io), 195 IO/DATA2 (472) (io), 196 IO (471) (io), 197 IO (470) (io), 198 IO (469) (io), 199 VCCIO1 (power), 200 IO/DATA1 (465) (io), 201 IO (464) (io), 202 IO (463) (io), 203 IO (462) (io), 204 IO/CLKUSR (461) (io), 205 IO/RDYnBSY (459) (io), 206 IO/INIT_DONE (458) (io), 207 IO (457) (io), 215 IO (444) (io), 216 IO (443) (io), 217 IO (442) (io), 219 IO (439) (io), 220 IO (437) (io), 221 IO (436) (io), 222 IO (435) (io), 223 IO (434) (io), 224 IO (432) (io), 225 IO (431) (io), 226 IO (430) (io), 227 IO (429) (io), 228 IO (427) (io), 229 VCCIO2 (power), 230 IO (424) (io), 231 IO (423) (io), 232 IO (422) (io), 233 IO (420) (io), 234 IO (419) (io), 235 IO (417) (io), 236 IO (415) (io), 237 IO (413) (io), 238 IO (412) (io), 239 IO (411) (io)
part B pins: 29 MSEL0 (331) (in), 30 MSEL1 (330) (in), 32 CLKLK_ENA (328) (in), 33 nCONFIG (327) (in), 86 TMS (214) (in), 87 TCK (213) (in), 88 FAST3 (212) (io), 91 FAST4 (203) (io), 92 nSTATUS (202) (io), 93 CONF_DONE (201) (io), 149 TDI (84) (in), 150 nCE (83) (in), 152 DCLK (81) (in), 153 DATA0 (80) (in), 208 TDO (455) (out), 209 FAST2 (454) (io), 212 FAST1 (447) (io), 213 nCEO (446) (out), 214 TRST (445) (in)
part C pins: 1 VCCINT (power), 5 VCCINT (power), 6 GND (power), 14 VCCINT (power), 15 GND (power), 19 GND (power), 26 GND (power), 27 VCCINT (power), 28 GND (power), 38 GND (power), 39 VCCINT (power), 42 GND (power), 51 GND (power), 52 VCCINT (power), 56 GND (power), 60 VCCINT (power), 78 GND (power), 89 GND (power), 90 VCCINT (power), 108 GND (power), 122 VCCINT (power), 127 VCCINT (power), 128 GND (power), 132 GND (power), 137 GND (power), 140 VCCINT (power), 141 GND_CKOUT2 (92) (power), 142 VCC_CKOUT2 (91) (power), 144 VCC_CKLK2 (89) (power), 145 VCCINT (power), 146 GND (power), 147 GND_CKLK2 (86/87) (power), 158 GND_CKLK4 (67/68) (power), 159 VCC_CKLK4 (66) (power), 162 GND (power), 165 GND (power), 167 GND (power), 168 VCCINT (power), 175 GND (power), 176 VCCINT (power), 179 VCCINT (power), 188 GND (power), 210 VCCINT (power), 211 GND (power), 218 GND (power), 240 GND (power)
part A text: BANK 1; BANK 2; BANK 3; BANK 8; BANK 4; BANK 7; BANK 6; BANK 5

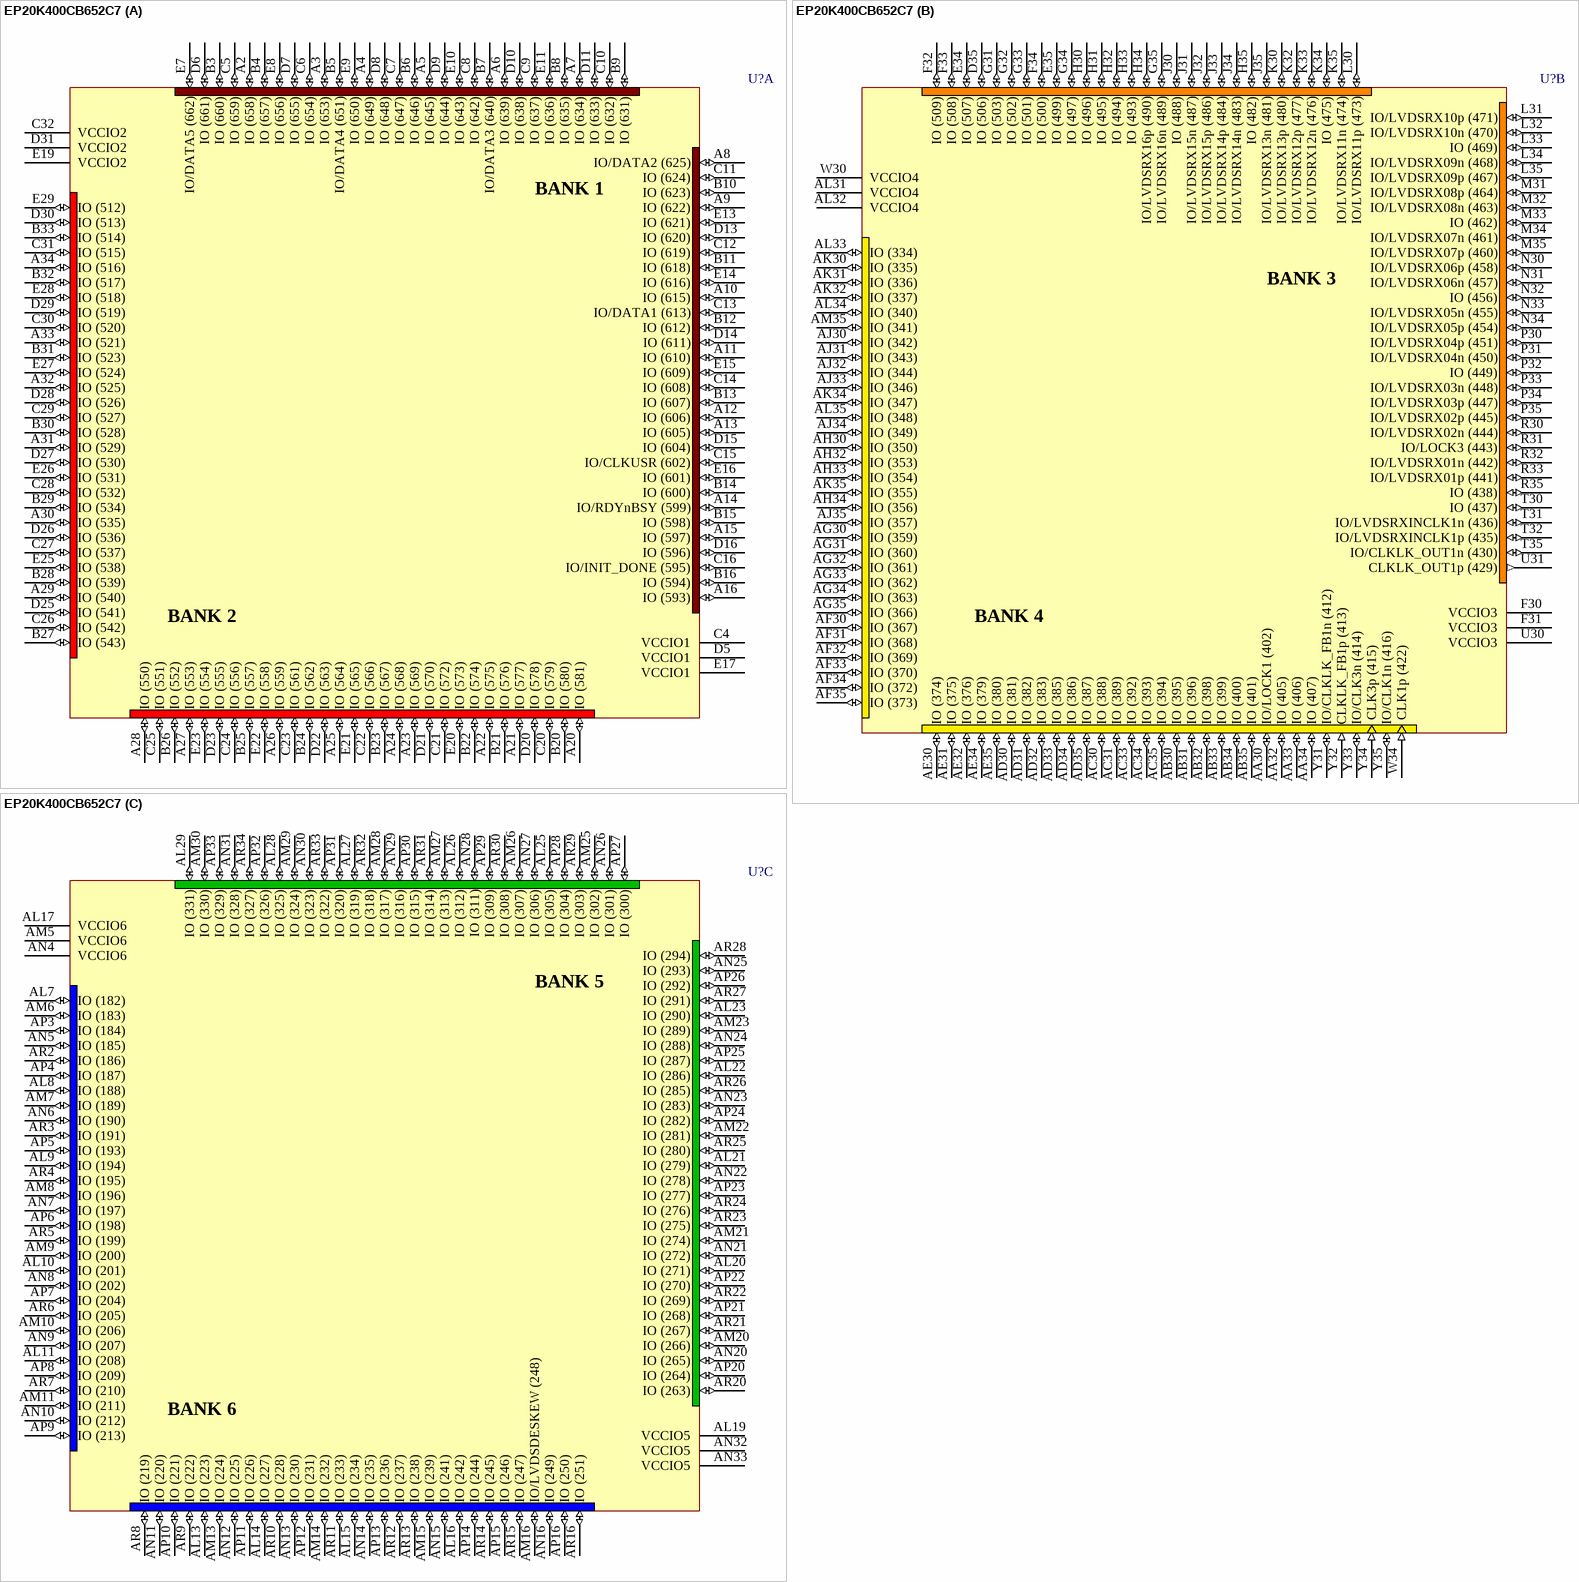
[diagram p24: symbol EP20K400CB652C7]

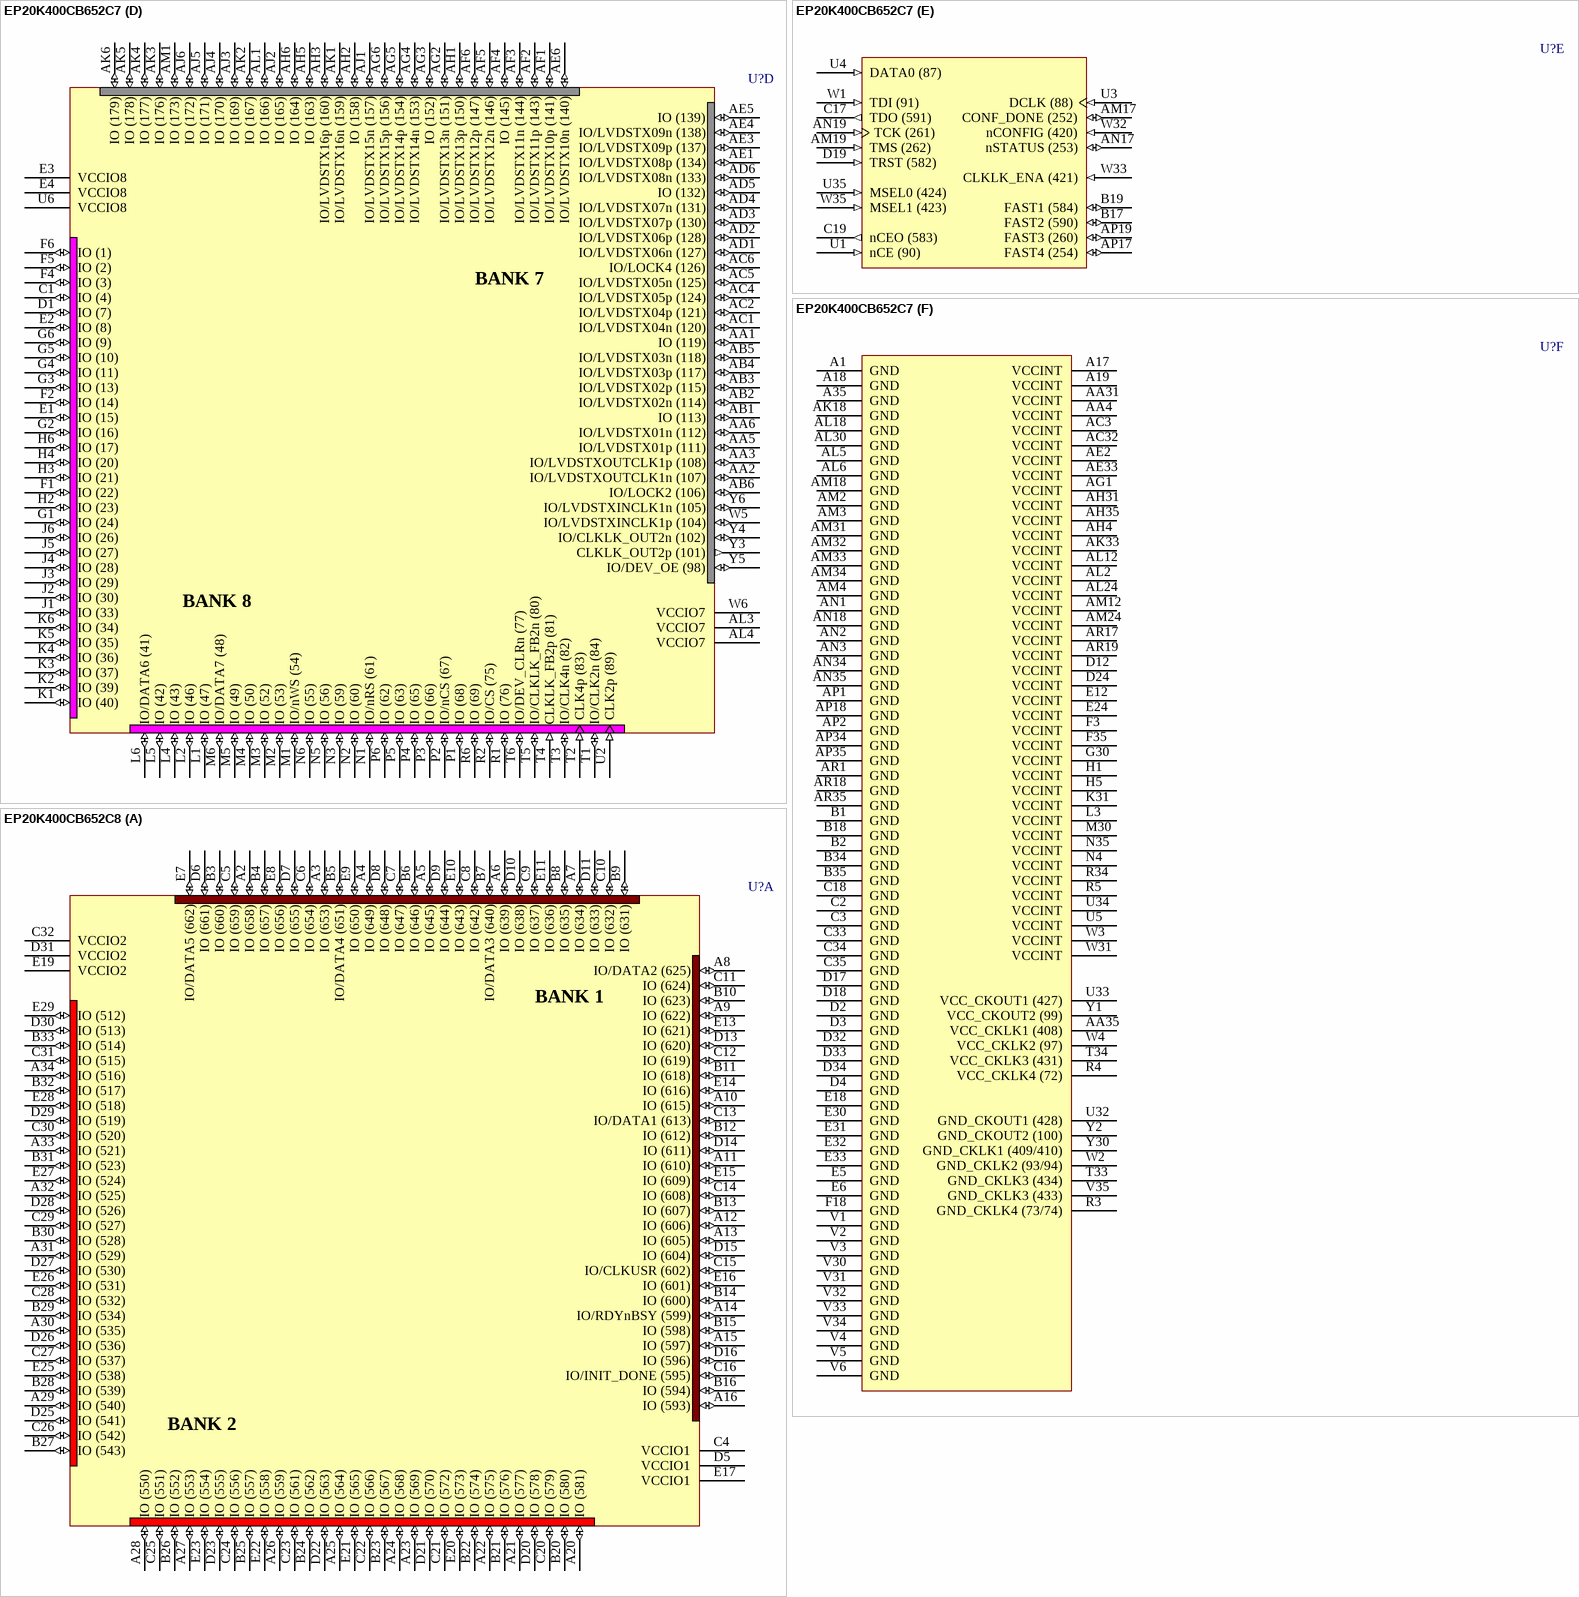
[diagram p25: symbols EP20K400CB652C7 to EP20K400CB652C8]

## EP20K400CB652C7
designator U?
APEX 20KC Family, 1.8V FPGA, 488 I/O Pins, 4 x PLLs, Commercial Grade, Speed Grade 7; Note: Pin compatible with Apex 20KE equivalent; Published: 23-Sep-2002; LatestRevisionDate: 13-Apr-2006; LatestRevisionNote: IPC-7351 Footprint Added.; DatasheetVersion: ver2.2, Feb-2004; PackageVersion: ver14.2, Oct-2005; PackageReference: BGA652; Publisher: Altium Limited; PackageDescription: 652-Ball Ball Grid Array (BGA652), Option 1 - Flip Chip; Code_JEDEC: MO-192-BAW-1; ComponentLink1Description: Manufacturer Link; ComponentLink1URL: http://www.altera.com/products/devices/apex/apx-index.html; ComponentLink2Description: Datasheet; ComponentLink2URL: http://www.altera.com/literature/ds/ds_apex20kc.pdf
footprint BGA652 (BGA, 652-Leads, Body 45x45mm, Pitch 1.27mm)
3D model EP20K400C-BGA652TD (652-Ball Ball Grid Array (BGA652), Option 1 - Flip Chip)
part A pins: A2 IO (658) (io), A3 IO (653) (io), A4 IO (649) (io), A5 IO (645) (io), A6 IO (639) (io), A7 IO (634) (io), A8 IO/DATA2 (625) (io), A9 IO (622) (io), A10 IO (615) (io), A11 IO (610) (io), A12 IO (606) (io), A13 IO (605) (io), A14 IO/RDYnBSY (599) (io), A15 IO (597) (io), A16 IO (593) (io), A20 IO (581) (io), A21 IO (577) (io), A22 IO (575) (io), A23 IO (569) (io), A24 IO (568) (io), A25 IO (564) (io), A26 IO (559) (io), A27 IO (553) (io), A28 IO (550) (io), A29 IO (540) (io), A30 IO (535) (io), A31 IO (529) (io), A32 IO (525) (io), A33 IO (521) (io), A34 IO (516) (io), B3 IO (660) (io), B4 IO (657) (io), B5 IO/DATA4 (651) (io), B6 IO (646) (io), B7 IO/DATA3 (640) (io), B8 IO (635) (io), B9 IO (631) (io), B10 IO (623) (io), B11 IO (618) (io), B12 IO (612) (io), B13 IO (607) (io), B14 IO (600) (io), B15 IO (598) (io), B16 IO (594) (io), B20 IO (580) (io), B21 IO (576) (io), B22 IO (574) (io), B23 IO (567) (io), B24 IO (562) (io), B25 IO (557) (io), B26 IO (552) (io), B27 IO (543) (io), B28 IO (539) (io), B29 IO (534) (io), B30 IO (528) (io), B31 IO (523) (io), B32 IO (517) (io), B33 IO (514) (io), C4 VCCIO1 (power), C5 IO (659) (io), C6 IO (654) (io), C7 IO (647) (io), C8 IO (642) (io), C9 IO (637) (io), C10 IO (632) (io), C11 IO (624) (io), C12 IO (619) (io), C13 IO/DATA1 (613) (io), C14 IO (608) (io), C15 IO/CLKUSR (602) (io), C16 IO/INIT_DONE (595) (io), C20 IO (579) (io), C21 IO (572) (io), C22 IO (566) (io), C23 IO (561) (io), C24 IO (556) (io), C25 IO (551) (io), C26 IO (542) (io), C27 IO (537) (io), C28 IO (532) (io), C29 IO (527) (io), C30 IO (520) (io), C31 IO (515) (io), C32 VCCIO2 (power), D5 VCCIO1 (power), D6 IO (661) (io), D7 IO (655) (io), D8 IO (648) (io), D9 IO (644) (io), D10 IO (638) (io), D11 IO (633) (io), D13 IO (620) (io), D14 IO (611) (io), D15 IO (604) (io), D16 IO (596) (io), D20 IO (578) (io), D21 IO (570) (io), D22 IO (563) (io), D23 IO (555) (io), D25 IO (541) (io), D26 IO (536) (io), D27 IO (530) (io), D28 IO (526) (io), D29 IO (519) (io), D30 IO (513) (io), D31 VCCIO2 (power), E7 IO/DATA5 (662) (io), E8 IO (656) (io), E9 IO (650) (io), E10 IO (643) (io), E11 IO (636) (io), E13 IO (621) (io), E14 IO (616) (io), E15 IO (609) (io), E16 IO (601) (io), E17 VCCIO1 (power), E19 VCCIO2 (power), E20 IO (573) (io), E21 IO (565) (io), E22 IO (558) (io), E23 IO (554) (io), E25 IO (538) (io), E26 IO (531) (io), E27 IO (524) (io), E28 IO (518) (io), E29 IO (512) (io)
part B pins: AA30 IO/LOCK1 (402) (io), AA32 IO (405) (io), AA33 IO (406) (io), AA34 IO (407) (io), AB30 IO (395) (io), AB31 IO (396) (io), AB32 IO (398) (io), AB33 IO (399) (io), AB34 IO (400) (io), AB35 IO (401) (io), AC30 IO (388) (io), AC31 IO (389) (io), AC33 IO (392) (io), AC34 IO (393) (io), AC35 IO (394) (io), AD30 IO (381) (io), AD31 IO (382) (io), AD32 IO (383) (io), AD33 IO (385) (io), AD34 IO (386) (io), AD35 IO (387) (io), AE30 IO (374) (io), AE31 IO (375) (io), AE32 IO (376) (io), AE34 IO (379) (io), AE35 IO (380) (io), AF30 IO (367) (io), AF31 IO (368) (io), AF32 IO (369) (io), AF33 IO (370) (io), AF34 IO (372) (io), AF35 IO (373) (io), AG30 IO (359) (io), AG31 IO (360) (io), AG32 IO (361) (io), AG33 IO (362) (io), AG34 IO (363) (io), AG35 IO (366) (io), AH30 IO (350) (io), AH32 IO (353) (io), AH33 IO (354) (io), AH34 IO (356) (io), AJ30 IO (342) (io), AJ31 IO (343) (io), AJ32 IO (344) (io), AJ33 IO (346) (io), AJ34 IO (349) (io), AJ35 IO (357) (io), AK30 IO (335) (io), AK31 IO (336) (io), AK32 IO (337) (io), AK34 IO (347) (io), AK35 IO (355) (io), AL31 VCCIO4 (power), AL32 VCCIO4 (power), AL33 IO (334) (io), AL34 IO (340) (io), AL35 IO (348) (io), AM35 IO (341) (io), D35 IO (506) (io), E34 IO (507) (io), E35 IO (499) (io), F30 VCCIO3 (power), F31 VCCIO3 (power), F32 IO (509) (io), F33 IO (508) (io), F34 IO (500) (io), G31 IO (503) (io), G32 IO (502) (io), G33 IO (501) (io), G34 IO (497) (io), G35 IO/LVDSRX16n (489) (io), H30 IO (496) (io), H31 IO (495) (io), H32 IO (494) (io), H33 IO (493) (io), H34 IO/LVDSRX16p (490) (io), H35 IO (482) (io), J30 IO (488) (io), J31 IO/LVDSRX15n (487) (io), J32 IO/LVDSRX15p (486) (io), J33 IO/LVDSRX14p (484) (io), J34 IO/LVDSRX14n (483) (io), J35 IO/LVDSRX13n (481) (io), K30 IO/LVDSRX13p (480) (io), K32 IO/LVDSRX12p (477) (io), K33 IO/LVDSRX12n (476) (io), K34 IO (475) (io), K35 IO/LVDSRX11n (474) (io), L30 IO/LVDSRX11p (473) (io), L31 IO/LVDSRX10p (471) (io), L32 IO/LVDSRX10n (470) (io), L33 IO (469) (io), L34 IO/LVDSRX09n (468) (io), L35 IO/LVDSRX09p (467) (io), M31 IO/LVDSRX08p (464) (io), M32 IO/LVDSRX08n (463) (io), M33 IO (462) (io), M34 IO/LVDSRX07n (461) (io), M35 IO/LVDSRX07p (460) (io), N30 IO/LVDSRX06p (458) (io), N31 IO/LVDSRX06n (457) (io), N32 IO (456) (io), N33 IO/LVDSRX05n (455) (io), N34 IO/LVDSRX05p (454) (io), P30 IO/LVDSRX04p (451) (io), P31 IO/LVDSRX04n (450) (io), P32 IO (449) (io), P33 IO/LVDSRX03n (448) (io), P34 IO/LVDSRX03p (447) (io), P35 IO/LVDSRX02p (445) (io), R30 IO/LVDSRX02n (444) (io), R31 IO/LOCK3 (443) (io), R32 IO/LVDSRX01n (442) (io), R33 IO/LVDSRX01p (441) (io), R35 IO (438) (io), T30 IO (437) (io), T31 IO/LVDSRXINCLK1n (436) (io), T32 IO/LVDSRXINCLK1p (435) (io), T35 IO/CLKLK_OUT1n (430) (io), U30 VCCIO3 (power), U31 CLKLK_OUT1p (429) (out), W30 VCCIO4 (power), W34 CLK1p (422) (in), Y31 IO/CLKLK_FB1n (412) (io), Y32 CLKLK_FB1p (413) (in), Y33 IO/CLK3n (414) (io), Y34 CLK3p (415) (in), Y35 IO/CLK1n (416) (io)
part C pins: AL7 IO (182) (io), AL8 IO (188) (io), AL9 IO (194) (io), AL10 IO (201) (io), AL11 IO (208) (io), AL13 IO (223) (io), AL14 IO (227) (io), AL15 IO (234) (io), AL16 IO (242) (io), AL17 VCCIO6 (power), AL19 VCCIO5 (power), AL20 IO (271) (io), AL21 IO (279) (io), AL22 IO (286) (io), AL23 IO (290) (io), AL25 IO (305) (io), AL26 IO (312) (io), AL27 IO (319) (io), AL28 IO (325) (io), AL29 IO (331) (io), AM5 VCCIO6 (power), AM6 IO (183) (io), AM7 IO (189) (io), AM8 IO (196) (io), AM9 IO (200) (io), AM10 IO (206) (io), AM11 IO (211) (io), AM13 IO (224) (io), AM14 IO (232) (io), AM15 IO (239) (io), AM16 IO/LVDSDESKEW (248) (io), AM20 IO (266) (io), AM21 IO (274) (io), AM22 IO (281) (io), AM23 IO (289) (io), AM25 IO (302) (io), AM26 IO (307) (io), AM27 IO (313) (io), AM28 IO (317) (io), AM29 IO (324) (io), AM30 IO (330) (io), AN4 VCCIO6 (power), AN5 IO (185) (io), AN6 IO (190) (io), AN7 IO (197) (io), AN8 IO (202) (io), AN9 IO (207) (io), AN10 IO (212) (io), AN11 IO (220) (io), AN12 IO (225) (io), AN13 IO (230) (io), AN14 IO (235) (io), AN15 IO (241) (io), AN16 IO (249) (io), AN20 IO (265) (io), AN21 IO (272) (io), AN22 IO (278) (io), AN23 IO (283) (io), AN24 IO (288) (io), AN25 IO (293) (io), AN26 IO (301) (io), AN27 IO (306) (io), AN28 IO (311) (io), AN29 IO (316) (io), AN30 IO (323) (io), AN31 IO (328) (io), AN32 VCCIO5 (power), AN33 VCCIO5 (power), AP3 IO (184) (io), AP4 IO (187) (io), AP5 IO (193) (io), AP6 IO (198) (io), AP7 IO (204) (io), AP8 IO (209) (io), AP9 IO (213) (io), AP10 IO (221) (io), AP11 IO (226) (io), AP12 IO (231) (io), AP13 IO (236) (io), AP14 IO (244) (io), AP15 IO (246) (io), AP16 IO (250) (io), AP20 IO (264) (io), AP21 IO (268) (io), AP22 IO (270) (io), AP23 IO (277) (io), AP24 IO (282) (io), AP25 IO (287) (io), AP26 IO (292) (io), AP27 IO (300) (io), AP28 IO (304) (io), AP29 IO (309) (io), AP30 IO (315) (io), AP31 IO (320) (io), AP32 IO (326) (io), AP33 IO (329) (io), AR2 IO (186) (io), AR3 IO (191) (io), AR4 IO (195) (io), AR5 IO (199) (io), AR6 IO (205) (io), AR7 IO (210) (io), AR8 IO (219) (io), AR9 IO (222) (io), AR10 IO (228) (io), AR11 IO (233) (io), AR12 IO (237) (io), AR13 IO (238) (io), AR14 IO (245) (io), AR15 IO (247) (io), AR16 IO (251) (io), AR20 IO (263) (io), AR21 IO (267) (io), AR22 IO (269) (io), AR23 IO (275) (io), AR24 IO (276) (io), AR25 IO (280) (io), AR26 IO (285) (io), AR27 IO (291) (io), AR28 IO (294) (io), AR29 IO (303) (io), AR30 IO (308) (io), AR31 IO (314) (io), AR32 IO (318) (io), AR33 IO (322) (io), AR34 IO (327) (io)
part D pins: AA1 IO (119) (io), AA2 IO/LVDSTXOUTCLK1n (107) (io), AA3 IO/LVDSTXOUTCLK1p (108) (io), AA5 IO/LVDSTX01p (111) (io), AA6 IO/LVDSTX01n (112) (io), AB1 IO (113) (io), AB2 IO/LVDSTX02n (114) (io), AB3 IO/LVDSTX02p (115) (io), AB4 IO/LVDSTX03p (117) (io), AB5 IO/LVDSTX03n (118) (io), AB6 IO/LOCK2 (106) (io), AC1 IO/LVDSTX04n (120) (io), AC2 IO/LVDSTX04p (121) (io), AC4 IO/LVDSTX05p (124) (io), AC5 IO/LVDSTX05n (125) (io), AC6 IO/LOCK4 (126) (io), AD1 IO/LVDSTX06n (127) (io), AD2 IO/LVDSTX06p (128) (io), AD3 IO/LVDSTX07p (130) (io), AD4 IO/LVDSTX07n (131) (io), AD5 IO (132) (io), AD6 IO/LVDSTX08n (133) (io), AE1 IO/LVDSTX08p (134) (io), AE3 IO/LVDSTX09p (137) (io), AE4 IO/LVDSTX09n (138) (io), AE5 IO (139) (io), AE6 IO/LVDSTX10n (140) (io), AF1 IO/LVDSTX10p (141) (io), AF2 IO/LVDSTX11p (143) (io), AF3 IO/LVDSTX11n (144) (io), AF4 IO (145) (io), AF5 IO/LVDSTX12n (146) (io), AF6 IO/LVDSTX12p (147) (io), AG2 IO/LVDSTX13n (151) (io), AG3 IO (152) (io), AG4 IO/LVDSTX14n (153) (io), AG5 IO/LVDSTX14p (154) (io), AG6 IO/LVDSTX15p (156) (io), AH1 IO/LVDSTX13p (150) (io), AH2 IO (158) (io), AH3 IO/LVDSTX16p (160) (io), AH5 IO (163) (io), AH6 IO (164) (io), AJ1 IO/LVDSTX15n (157) (io), AJ2 IO (165) (io), AJ3 IO (169) (io), AJ4 IO (170) (io), AJ5 IO (171) (io), AJ6 IO (172) (io), AK1 IO/LVDSTX16n (159) (io), AK2 IO (167) (io), AK3 IO (176) (io), AK4 IO (177) (io), AK5 IO (178) (io), AK6 IO (179) (io), AL1 IO (166) (io), AL3 VCCIO7 (power), AL4 VCCIO7 (power), AM1 IO (173) (io), C1 IO (4) (io), D1 IO (7) (io), E1 IO (15) (io), E2 IO (8) (io), E3 VCCIO8 (power), E4 VCCIO8 (power), F1 IO (22) (io), F2 IO (14) (io), F4 IO (3) (io), F5 IO (2) (io), F6 IO (1) (io), G1 IO (24) (io), G2 IO (16) (io), G3 IO (13) (io), G4 IO (11) (io), G5 IO (10) (io), G6 IO (9) (io), H2 IO (23) (io), H3 IO (21) (io), H4 IO (20) (io), H6 IO (17) (io), J1 IO (33) (io), J2 IO (30) (io), J3 IO (29) (io), J4 IO (28) (io), J5 IO (27) (io), J6 IO (26) (io), K1 IO (40) (io), K2 IO (39) (io), K3 IO (37) (io), K4 IO (36) (io), K5 IO (35) (io), K6 IO (34) (io), L1 IO (47) (io), L2 IO (46) (io), L4 IO (43) (io), L5 IO (42) (io), L6 IO/DATA6 (41) (io), M1 IO/nWS (54) (io), M2 IO (53) (io), M3 IO (52) (io), M4 IO (50) (io), M5 IO (49) (io), M6 IO/DATA7 (48) (io), N1 IO/nRS (61) (io), N2 IO (60) (io), N3 IO (59) (io), N5 IO (56) (io), N6 IO (55) (io), P1 IO (68) (io), P2 IO/nCS (67) (io), P3 IO (66) (io), P4 IO (65) (io), P5 IO (63) (io), P6 IO (62) (io), R1 IO (76) (io), R2 IO/CS (75) (io), R6 IO (69) (io), T1 IO/CLK2n (84) (io), T2 CLK4p (83) (in), T3 IO/CLK4n (82) (io), T4 CLKLK_FB2p (81) (in), T5 IO/CLKLK_FB2n (80) (io), T6 IO/DEV_CLRn (77) (io), U2 CLK2p (89) (in), U6 VCCIO8 (power), W5 IO/LVDSTXINCLK1p (104) (io), W6 VCCIO7 (power), Y3 CLKLK_OUT2p (101) (out), Y4 IO/CLKLK_OUT2n (102) (io), Y5 IO/DEV_OE (98) (io), Y6 IO/LVDSTXINCLK1n (105) (io)
part E pins: AM17 CONF_DONE (252) (io), AM19 TMS (262) (in), AN17 nSTATUS (253) (io), AN19 TCK (261) (in), AP17 FAST4 (254) (io), AP19 FAST3 (260) (io), B17 FAST2 (590) (io), B19 FAST1 (584) (io), C17 TDO (591) (out), C19 nCEO (583) (out), D19 TRST (582) (in), U1 nCE (90) (in), U3 DCLK (88) (in), U4 DATA0 (87) (in), U35 MSEL0 (424) (in), W1 TDI (91) (in), W32 nCONFIG (420) (in), W33 CLKLK_ENA (421) (in), W35 MSEL1 (423) (in)
part F pins: A1 GND (power), A17 VCCINT (power), A18 GND (power), A19 VCCINT (power), A35 GND (power), AA4 VCCINT (power), AA31 VCCINT (power), AA35 VCC_CKLK1 (408) (power), AC3 VCCINT (power), AC32 VCCINT (power), AE2 VCCINT (power), AE33 VCCINT (power), AG1 VCCINT (power), AH4 VCCINT (power), AH31 VCCINT (power), AH35 VCCINT (power), AK18 GND (power), AK33 VCCINT (power), AL2 VCCINT (power), AL5 GND (power), AL6 GND (power), AL12 VCCINT (power), AL18 GND (power), AL24 VCCINT (power), AL30 GND (power), AM2 GND (power), AM3 GND (power), AM4 GND (power), AM12 VCCINT (power), AM18 GND (power), AM24 VCCINT (power), AM31 GND (power), AM32 GND (power), AM33 GND (power), AM34 GND (power), AN1 GND (power), AN2 GND (power), AN3 GND (power), AN18 GND (power), AN34 GND (power), AN35 GND (power), AP1 GND (power), AP2 GND (power), AP18 GND (power), AP34 GND (power), AP35 GND (power), AR1 GND (power), AR17 VCCINT (power), AR18 GND (power), AR19 VCCINT (power), AR35 GND (power), B1 GND (power), B2 GND (power), B18 GND (power), B34 GND (power), B35 GND (power), C2 GND (power), C3 GND (power), C18 GND (power), C33 GND (power), C34 GND (power), C35 GND (power), D2 GND (power), D3 GND (power), D4 GND (power), D12 VCCINT (power), D17 GND (power), D18 GND (power), D24 VCCINT (power), D32 GND (power), D33 GND (power), D34 GND (power), E5 GND (power), E6 GND (power), E12 VCCINT (power), E18 GND (power), E24 VCCINT (power), E30 GND (power), E31 GND (power), E32 GND (power), E33 GND (power), F3 VCCINT (power), F18 GND (power), F35 VCCINT (power), G30 VCCINT (power), H1 VCCINT (power), H5 VCCINT (power), K31 VCCINT (power), L3 VCCINT (power), M30 VCCINT (power), N4 VCCINT (power), N35 VCCINT (power), R3 GND_CKLK4 (73/74) (power), R4 VCC_CKLK4 (72) (power), R5 VCCINT (power), R34 VCCINT (power), T33 GND_CKLK3 (434) (power), T34 VCC_CKLK3 (431) (power), U5 VCCINT (power), U32 GND_CKOUT1 (428) (power), U33 VCC_CKOUT1 (427) (power), U34 VCCINT (power), V1 GND (power), V2 GND (power), V3 GND (power), V4 GND (power), V5 GND (power), V6 GND (power), V30 GND (power), V31 GND (power), V32 GND (power), V33 GND (power), V34 GND (power), V35 GND_CKLK3 (433) (power), W2 GND_CKLK2 (93/94) (power), W3 VCCINT (power), W4 VCC_CKLK2 (97) (power), W31 VCCINT (power), Y1 VCC_CKOUT2 (99) (power), Y2 GND_CKOUT2 (100) (power), Y30 GND_CKLK1 (409/410) (power)
part A text: BANK 1; BANK 2
part B text: BANK 3; BANK 4
part C text: BANK 5; BANK 6
part D text: BANK 7; BANK 8

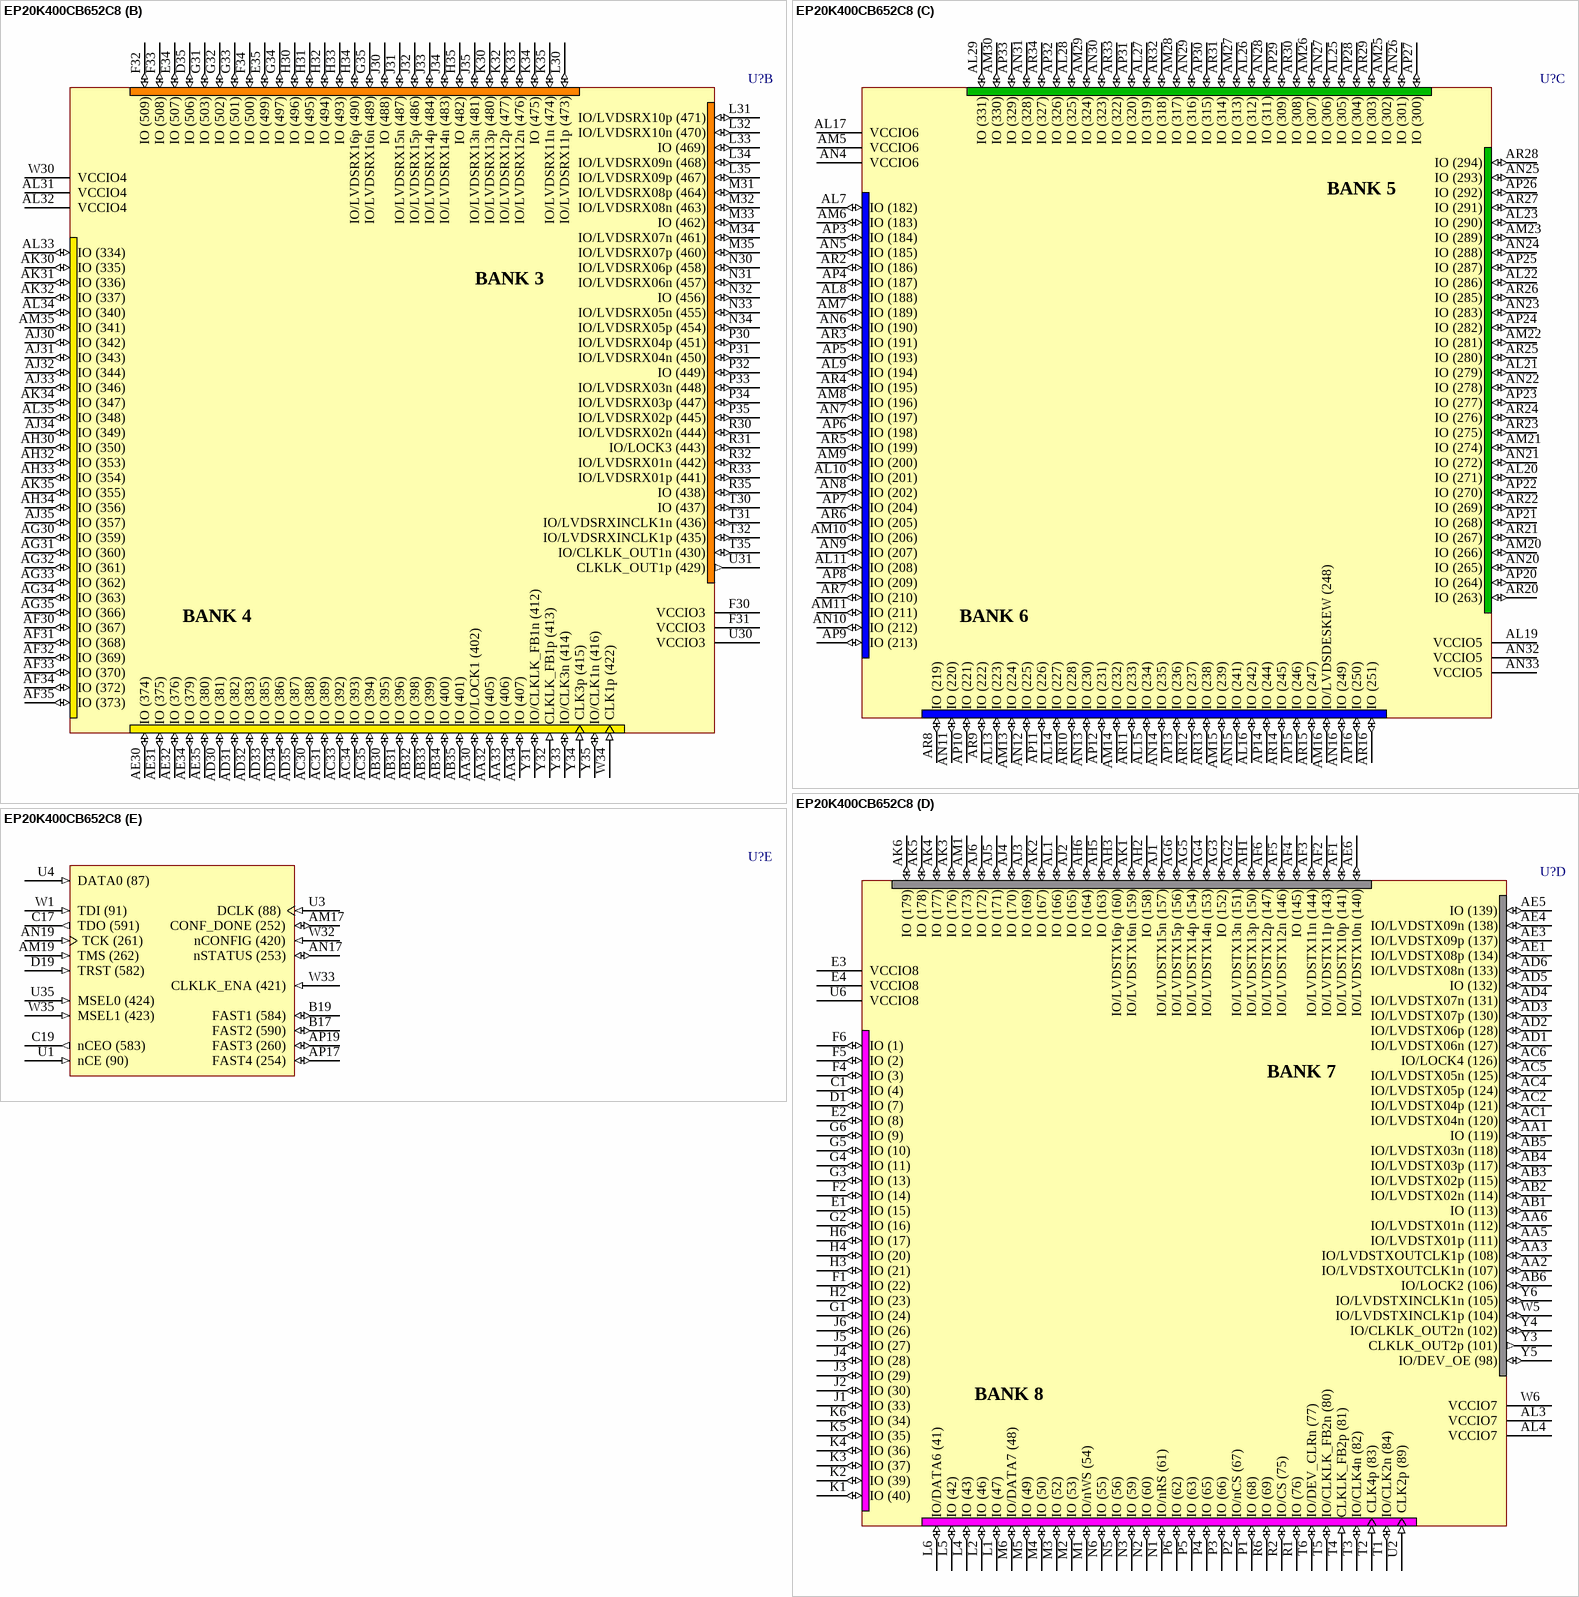
[diagram p26: symbol EP20K400CB652C8]

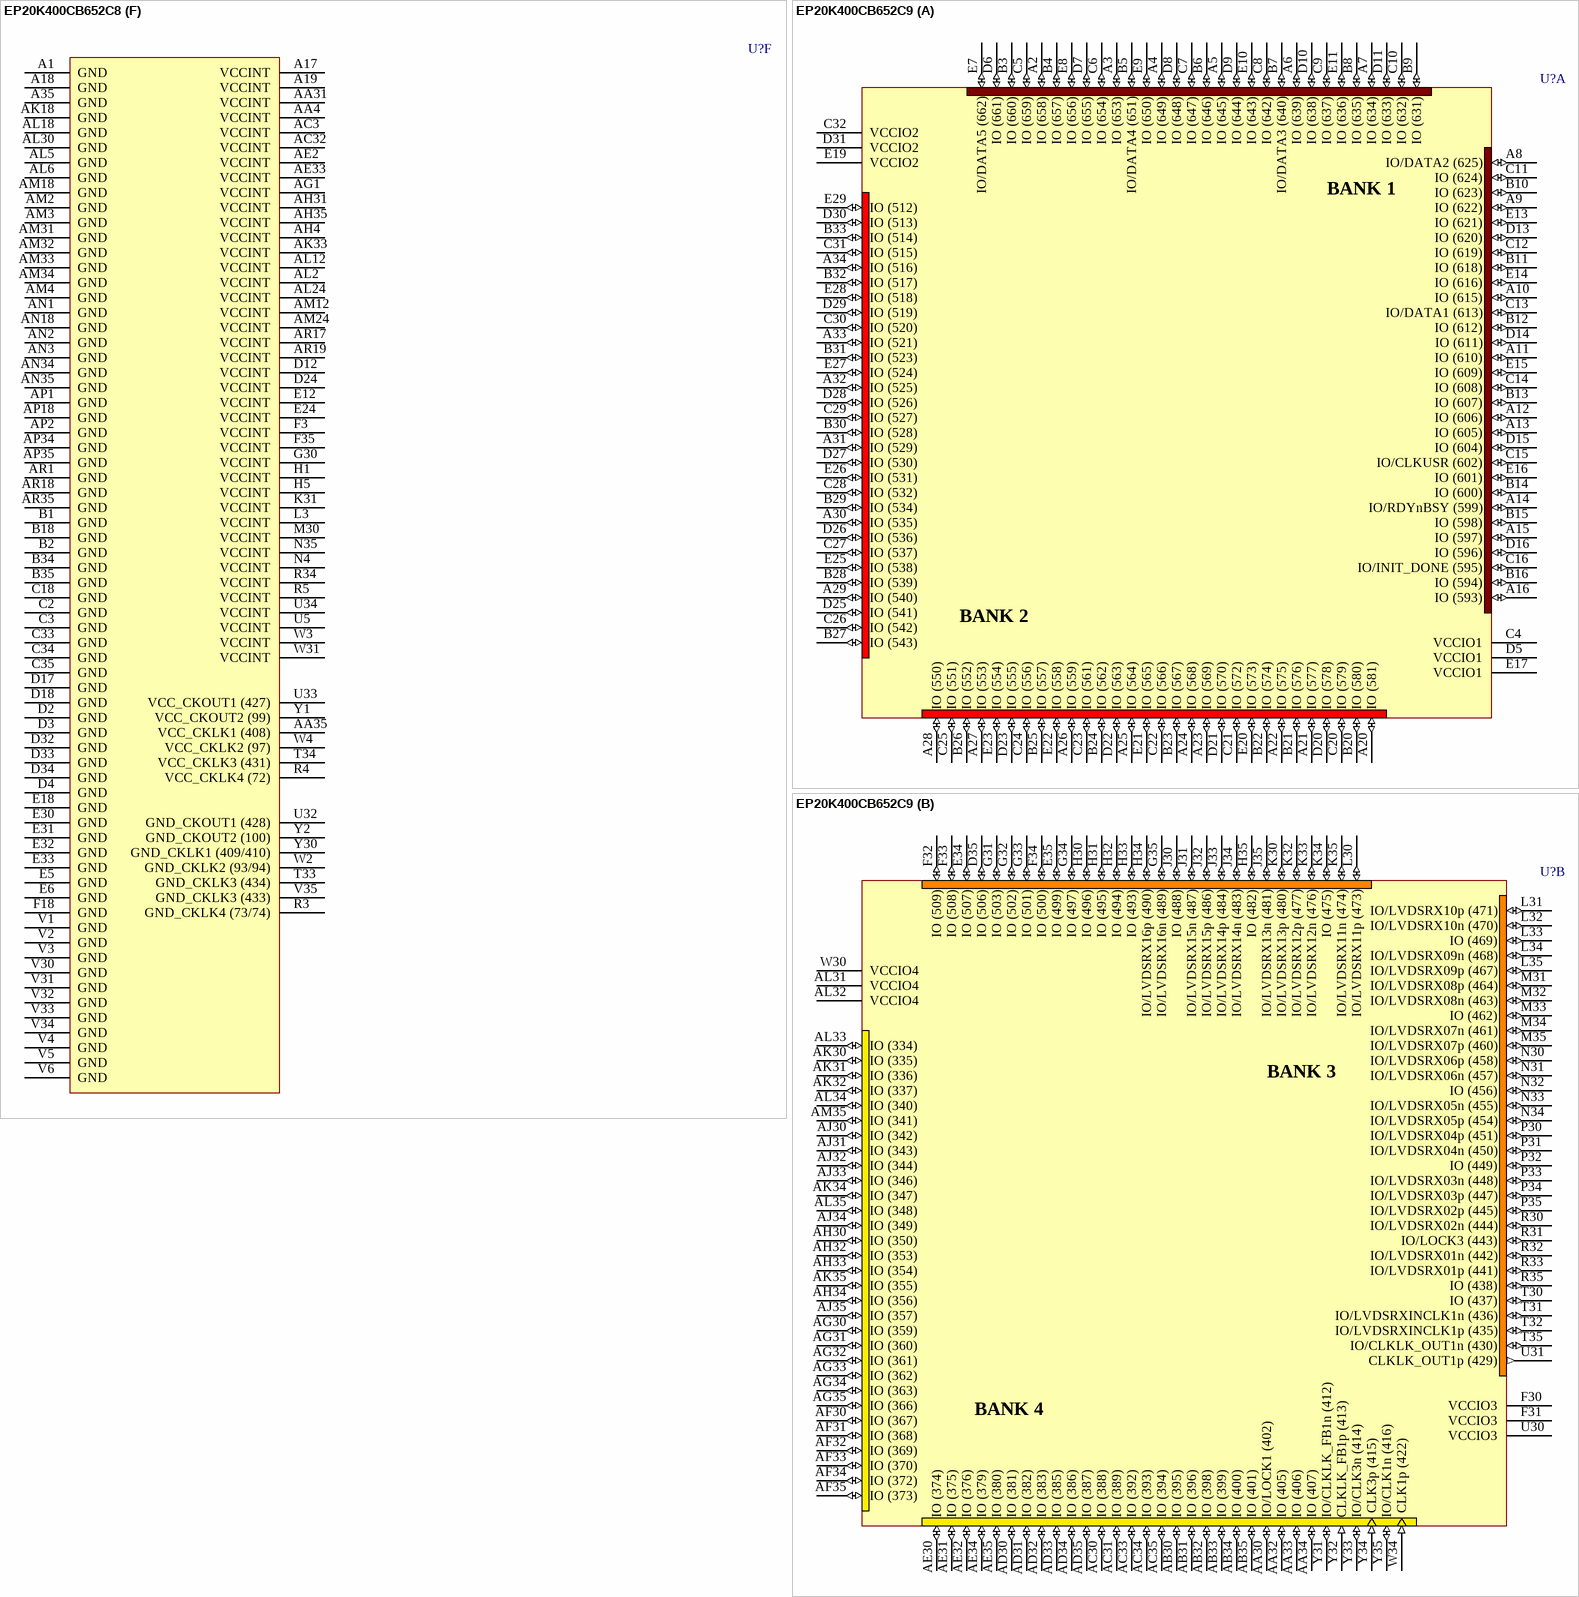
[diagram p27: symbols EP20K400CB652C8 to EP20K400CB652C9]